# Altium schematic symbol library adafruit.SCHLIB: 884 symbols (part 14 of 15)
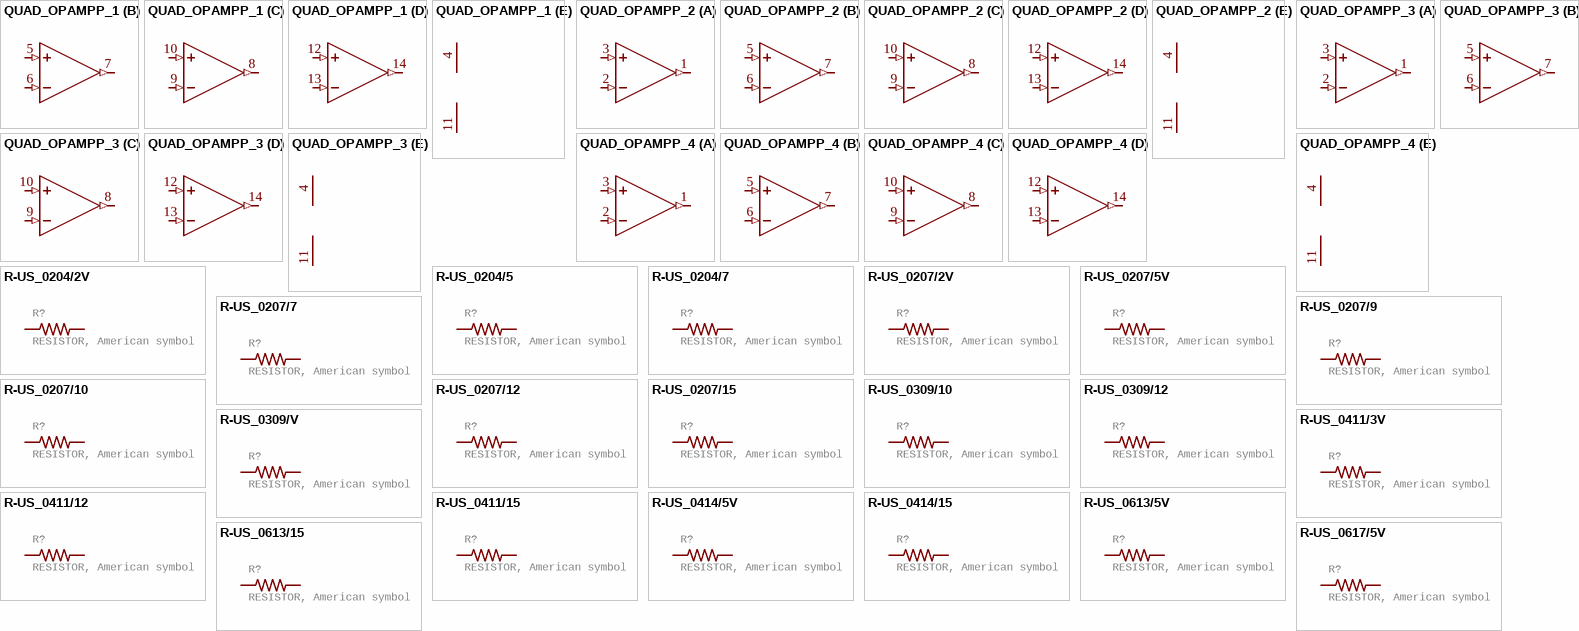
[diagram p201: symbols QUAD_OPAMPP_1 to R-US_0617/5V]

## R-US_0207/10
designator R?, comment RESISTOR, American symbol
GateName_1: G$1; SymbolName_1: R-US; DeviceName: 0207/10; DeviceSetName: R-US_; LibraryName: adafruit; Package: 0207/10
footprint 0207/10
pins: 1, 2

## R-US_0207/12
designator R?, comment RESISTOR, American symbol
GateName_1: G$1; SymbolName_1: R-US; DeviceName: 0207/12; DeviceSetName: R-US_; LibraryName: adafruit; Package: 0207/12
footprint 0207/12
pins: 1, 2

## R-US_0207/15
designator R?, comment RESISTOR, American symbol
GateName_1: G$1; SymbolName_1: R-US; DeviceName: 0207/15; DeviceSetName: R-US_; LibraryName: adafruit; Package: 0207/15
footprint 0207/15
pins: 1, 2

## R-US_0309/10
designator R?, comment RESISTOR, American symbol
GateName_1: G$1; SymbolName_1: R-US; DeviceName: 0309/10; DeviceSetName: R-US_; LibraryName: adafruit; Package: 0309/10
footprint 0309/10
pins: 1, 2

## R-US_0309/12
designator R?, comment RESISTOR, American symbol
GateName_1: G$1; SymbolName_1: R-US; DeviceName: 0309/12; DeviceSetName: R-US_; LibraryName: adafruit; Package: 0309/12
footprint 0309/12
pins: 1, 2

## R-US_0309/V
designator R?, comment RESISTOR, American symbol
GateName_1: G$1; SymbolName_1: R-US; DeviceName: 0309/V; DeviceSetName: R-US_; LibraryName: adafruit; Package: 0309V
footprint 0309V
pins: 1, 2

## R-US_0411/3V
designator R?, comment RESISTOR, American symbol
GateName_1: G$1; SymbolName_1: R-US; DeviceName: 0411/3V; DeviceSetName: R-US_; LibraryName: adafruit; Package: 0411V
footprint 0411V
pins: 1, 2

## R-US_0411/12
designator R?, comment RESISTOR, American symbol
GateName_1: G$1; SymbolName_1: R-US; DeviceName: 0411/12; DeviceSetName: R-US_; LibraryName: adafruit; Package: 0411/12
footprint 0411/12
pins: 1, 2

## R-US_0411/15
designator R?, comment RESISTOR, American symbol
GateName_1: G$1; SymbolName_1: R-US; DeviceName: 0411/15; DeviceSetName: R-US_; LibraryName: adafruit; Package: 0411/15
footprint 0411/15
pins: 1, 2

## R-US_0414/5V
designator R?, comment RESISTOR, American symbol
GateName_1: G$1; SymbolName_1: R-US; DeviceName: 0414/5V; DeviceSetName: R-US_; LibraryName: adafruit; Package: 0414V
footprint 0414V
pins: 1, 2

## R-US_0414/15
designator R?, comment RESISTOR, American symbol
GateName_1: G$1; SymbolName_1: R-US; DeviceName: 0414/15; DeviceSetName: R-US_; LibraryName: adafruit; Package: 0414/15
footprint 0414/15
pins: 1, 2

## R-US_0613/5V
designator R?, comment RESISTOR, American symbol
GateName_1: G$1; SymbolName_1: R-US; DeviceName: 0613/5V; DeviceSetName: R-US_; LibraryName: adafruit; Package: P0613V
footprint P0613V
pins: 1, 2

## R-US_0613/15
designator R?, comment RESISTOR, American symbol
GateName_1: G$1; SymbolName_1: R-US; DeviceName: 0613/15; DeviceSetName: R-US_; LibraryName: adafruit; Package: P0613/15
footprint P0613/15
pins: 1, 2

## R-US_0617/5V
designator R?, comment RESISTOR, American symbol
GateName_1: G$1; SymbolName_1: R-US; DeviceName: 0617/5V; DeviceSetName: R-US_; LibraryName: adafruit; Package: 0617V
footprint 0617V
pins: 1, 2

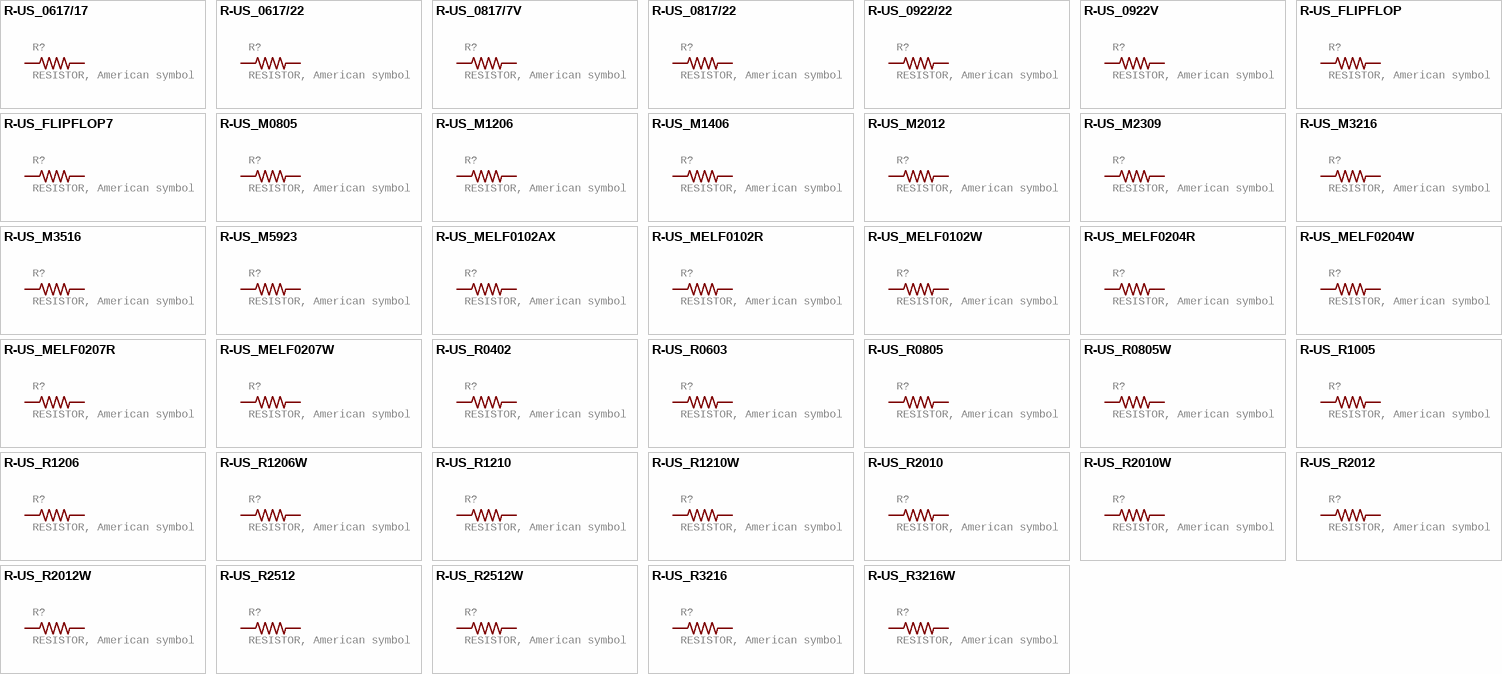
[diagram p183: symbols R-US_0617/17 to R-US_R3216W]

## R-US_0617/17
designator R?, comment RESISTOR, American symbol
GateName_1: G$1; SymbolName_1: R-US; DeviceName: 0617/17; DeviceSetName: R-US_; LibraryName: adafruit; Package: 0617/17
footprint 0617/17
pins: 1, 2

## R-US_0617/22
designator R?, comment RESISTOR, American symbol
GateName_1: G$1; SymbolName_1: R-US; DeviceName: 0617/22; DeviceSetName: R-US_; LibraryName: adafruit; Package: 0617/22
footprint 0617/22
pins: 1, 2

## R-US_0817/7V
designator R?, comment RESISTOR, American symbol
GateName_1: G$1; SymbolName_1: R-US; DeviceName: 0817/7V; DeviceSetName: R-US_; LibraryName: adafruit; Package: P0817V
footprint P0817V
pins: 1, 2

## R-US_0817/22
designator R?, comment RESISTOR, American symbol
GateName_1: G$1; SymbolName_1: R-US; DeviceName: 0817/22; DeviceSetName: R-US_; LibraryName: adafruit; Package: P0817/22
footprint P0817/22
pins: 1, 2

## R-US_0922/22
designator R?, comment RESISTOR, American symbol
GateName_1: G$1; SymbolName_1: R-US; DeviceName: 0922/22; DeviceSetName: R-US_; LibraryName: adafruit; Package: 0922/22
footprint 0922/22
pins: 1, 2

## R-US_0922V
designator R?, comment RESISTOR, American symbol
GateName_1: G$1; SymbolName_1: R-US; DeviceName: 0922V; DeviceSetName: R-US_; LibraryName: adafruit; Package: 0922V
footprint 0922V
pins: 1, 2

## R-US_FLIPFLOP
designator R?, comment RESISTOR, American symbol
GateName_1: G$1; SymbolName_1: R-US; DeviceName: FLIPFLOP; DeviceSetName: R-US_; LibraryName: adafruit; Package: 0805-THM
footprint 0805-THM
pins: 1, 2

## R-US_FLIPFLOP7
designator R?, comment RESISTOR, American symbol
GateName_1: G$1; SymbolName_1: R-US; DeviceName: FLIPFLOP7; DeviceSetName: R-US_; LibraryName: adafruit; Package: 0805-THM-7
footprint 0805-THM-7
pins: 1, 2

## R-US_M0805
designator R?, comment RESISTOR, American symbol
GateName_1: G$1; SymbolName_1: R-US; DeviceName: M0805; DeviceSetName: R-US_; LibraryName: adafruit; Package: M0805
footprint M0805
pins: 1, 2

## R-US_M1206
designator R?, comment RESISTOR, American symbol
GateName_1: G$1; SymbolName_1: R-US; DeviceName: M1206; DeviceSetName: R-US_; LibraryName: adafruit; Package: M1206
footprint M1206
pins: 1, 2

## R-US_M1406
designator R?, comment RESISTOR, American symbol
GateName_1: G$1; SymbolName_1: R-US; DeviceName: M1406; DeviceSetName: R-US_; LibraryName: adafruit; Package: M1406
footprint M1406
pins: 1, 2

## R-US_M2012
designator R?, comment RESISTOR, American symbol
GateName_1: G$1; SymbolName_1: R-US; DeviceName: M2012; DeviceSetName: R-US_; LibraryName: adafruit; Package: M2012
footprint M2012
pins: 1, 2

## R-US_M2309
designator R?, comment RESISTOR, American symbol
GateName_1: G$1; SymbolName_1: R-US; DeviceName: M2309; DeviceSetName: R-US_; LibraryName: adafruit; Package: M2309
footprint M2309
pins: 1, 2

## R-US_M3216
designator R?, comment RESISTOR, American symbol
GateName_1: G$1; SymbolName_1: R-US; DeviceName: M3216; DeviceSetName: R-US_; LibraryName: adafruit; Package: M3216
footprint M3216
pins: 1, 2

## R-US_M3516
designator R?, comment RESISTOR, American symbol
GateName_1: G$1; SymbolName_1: R-US; DeviceName: M3516; DeviceSetName: R-US_; LibraryName: adafruit; Package: M3516
footprint M3516
pins: 1, 2

## R-US_M5923
designator R?, comment RESISTOR, American symbol
GateName_1: G$1; SymbolName_1: R-US; DeviceName: M5923; DeviceSetName: R-US_; LibraryName: adafruit; Package: M5923
footprint M5923
pins: 1, 2

## R-US_MELF0102AX
designator R?, comment RESISTOR, American symbol
GateName_1: G$1; SymbolName_1: R-US; DeviceName: MELF0102AX; DeviceSetName: R-US_; LibraryName: adafruit; Package: MINI_MELF-0102AX
footprint MINI_MELF-0102AX
pins: 1, 2

## R-US_MELF0102R
designator R?, comment RESISTOR, American symbol
GateName_1: G$1; SymbolName_1: R-US; DeviceName: MELF0102R; DeviceSetName: R-US_; LibraryName: adafruit; Package: MINI_MELF-0102R
footprint MINI_MELF-0102R
pins: 1, 2

## R-US_MELF0102W
designator R?, comment RESISTOR, American symbol
GateName_1: G$1; SymbolName_1: R-US; DeviceName: MELF0102W; DeviceSetName: R-US_; LibraryName: adafruit; Package: MINI_MELF-0102W
footprint MINI_MELF-0102W
pins: 1, 2

## R-US_MELF0204R
designator R?, comment RESISTOR, American symbol
GateName_1: G$1; SymbolName_1: R-US; DeviceName: MELF0204R; DeviceSetName: R-US_; LibraryName: adafruit; Package: MINI_MELF-0204R
footprint MINI_MELF-0204R
pins: 1, 2

## R-US_MELF0204W
designator R?, comment RESISTOR, American symbol
GateName_1: G$1; SymbolName_1: R-US; DeviceName: MELF0204W; DeviceSetName: R-US_; LibraryName: adafruit; Package: MINI_MELF-0204W
footprint MINI_MELF-0204W
pins: 1, 2

## R-US_MELF0207R
designator R?, comment RESISTOR, American symbol
GateName_1: G$1; SymbolName_1: R-US; DeviceName: MELF0207R; DeviceSetName: R-US_; LibraryName: adafruit; Package: MINI_MELF-0207R
footprint MINI_MELF-0207R
pins: 1, 2

## R-US_MELF0207W
designator R?, comment RESISTOR, American symbol
GateName_1: G$1; SymbolName_1: R-US; DeviceName: MELF0207W; DeviceSetName: R-US_; LibraryName: adafruit; Package: MINI_MELF-0207W
footprint MINI_MELF-0207W
pins: 1, 2

## R-US_R0402
designator R?, comment RESISTOR, American symbol
GateName_1: G$1; SymbolName_1: R-US; DeviceName: R0402; DeviceSetName: R-US_; LibraryName: adafruit; Package: R0402
footprint R0402
pins: 1, 2

## R-US_R0603
designator R?, comment RESISTOR, American symbol
GateName_1: G$1; SymbolName_1: R-US; DeviceName: R0603; DeviceSetName: R-US_; LibraryName: adafruit; Package: R0603
footprint R0603
pins: 1, 2

## R-US_R0805
designator R?, comment RESISTOR, American symbol
GateName_1: G$1; SymbolName_1: R-US; DeviceName: R0805; DeviceSetName: R-US_; LibraryName: adafruit; Package: R0805
footprint R0805
pins: 1, 2

## R-US_R0805W
designator R?, comment RESISTOR, American symbol
GateName_1: G$1; SymbolName_1: R-US; DeviceName: R0805W; DeviceSetName: R-US_; LibraryName: adafruit; Package: R0805W
footprint R0805W
pins: 1, 2

## R-US_R1005
designator R?, comment RESISTOR, American symbol
GateName_1: G$1; SymbolName_1: R-US; DeviceName: R1005; DeviceSetName: R-US_; LibraryName: adafruit; Package: R1005
footprint R1005
pins: 1, 2

## R-US_R1206
designator R?, comment RESISTOR, American symbol
GateName_1: G$1; SymbolName_1: R-US; DeviceName: R1206; DeviceSetName: R-US_; LibraryName: adafruit; Package: R1206
footprint R1206
pins: 1, 2

## R-US_R1206W
designator R?, comment RESISTOR, American symbol
GateName_1: G$1; SymbolName_1: R-US; DeviceName: R1206W; DeviceSetName: R-US_; LibraryName: adafruit; Package: R1206W
footprint R1206W
pins: 1, 2

## R-US_R1210
designator R?, comment RESISTOR, American symbol
GateName_1: G$1; SymbolName_1: R-US; DeviceName: R1210; DeviceSetName: R-US_; LibraryName: adafruit; Package: R1210
footprint R1210
pins: 1, 2

## R-US_R1210W
designator R?, comment RESISTOR, American symbol
GateName_1: G$1; SymbolName_1: R-US; DeviceName: R1210W; DeviceSetName: R-US_; LibraryName: adafruit; Package: R1210W
footprint R1210W
pins: 1, 2

## R-US_R2010
designator R?, comment RESISTOR, American symbol
GateName_1: G$1; SymbolName_1: R-US; DeviceName: R2010; DeviceSetName: R-US_; LibraryName: adafruit; Package: R2010
footprint R2010
pins: 1, 2

## R-US_R2010W
designator R?, comment RESISTOR, American symbol
GateName_1: G$1; SymbolName_1: R-US; DeviceName: R2010W; DeviceSetName: R-US_; LibraryName: adafruit; Package: R2010W
footprint R2010W
pins: 1, 2

## R-US_R2012
designator R?, comment RESISTOR, American symbol
GateName_1: G$1; SymbolName_1: R-US; DeviceName: R2012; DeviceSetName: R-US_; LibraryName: adafruit; Package: R2012
footprint R2012
pins: 1, 2

## R-US_R2012W
designator R?, comment RESISTOR, American symbol
GateName_1: G$1; SymbolName_1: R-US; DeviceName: R2012W; DeviceSetName: R-US_; LibraryName: adafruit; Package: R2012W
footprint R2012W
pins: 1, 2

## R-US_R2512
designator R?, comment RESISTOR, American symbol
GateName_1: G$1; SymbolName_1: R-US; DeviceName: R2512; DeviceSetName: R-US_; LibraryName: adafruit; Package: R2512
footprint R2512
pins: 1, 2

## R-US_R2512W
designator R?, comment RESISTOR, American symbol
GateName_1: G$1; SymbolName_1: R-US; DeviceName: R2512W; DeviceSetName: R-US_; LibraryName: adafruit; Package: R2512W
footprint R2512W
pins: 1, 2

## R-US_R3216
designator R?, comment RESISTOR, American symbol
GateName_1: G$1; SymbolName_1: R-US; DeviceName: R3216; DeviceSetName: R-US_; LibraryName: adafruit; Package: R3216
footprint R3216
pins: 1, 2

## R-US_R3216W
designator R?, comment RESISTOR, American symbol
GateName_1: G$1; SymbolName_1: R-US; DeviceName: R3216W; DeviceSetName: R-US_; LibraryName: adafruit; Package: R3216W
footprint R3216W
pins: 1, 2

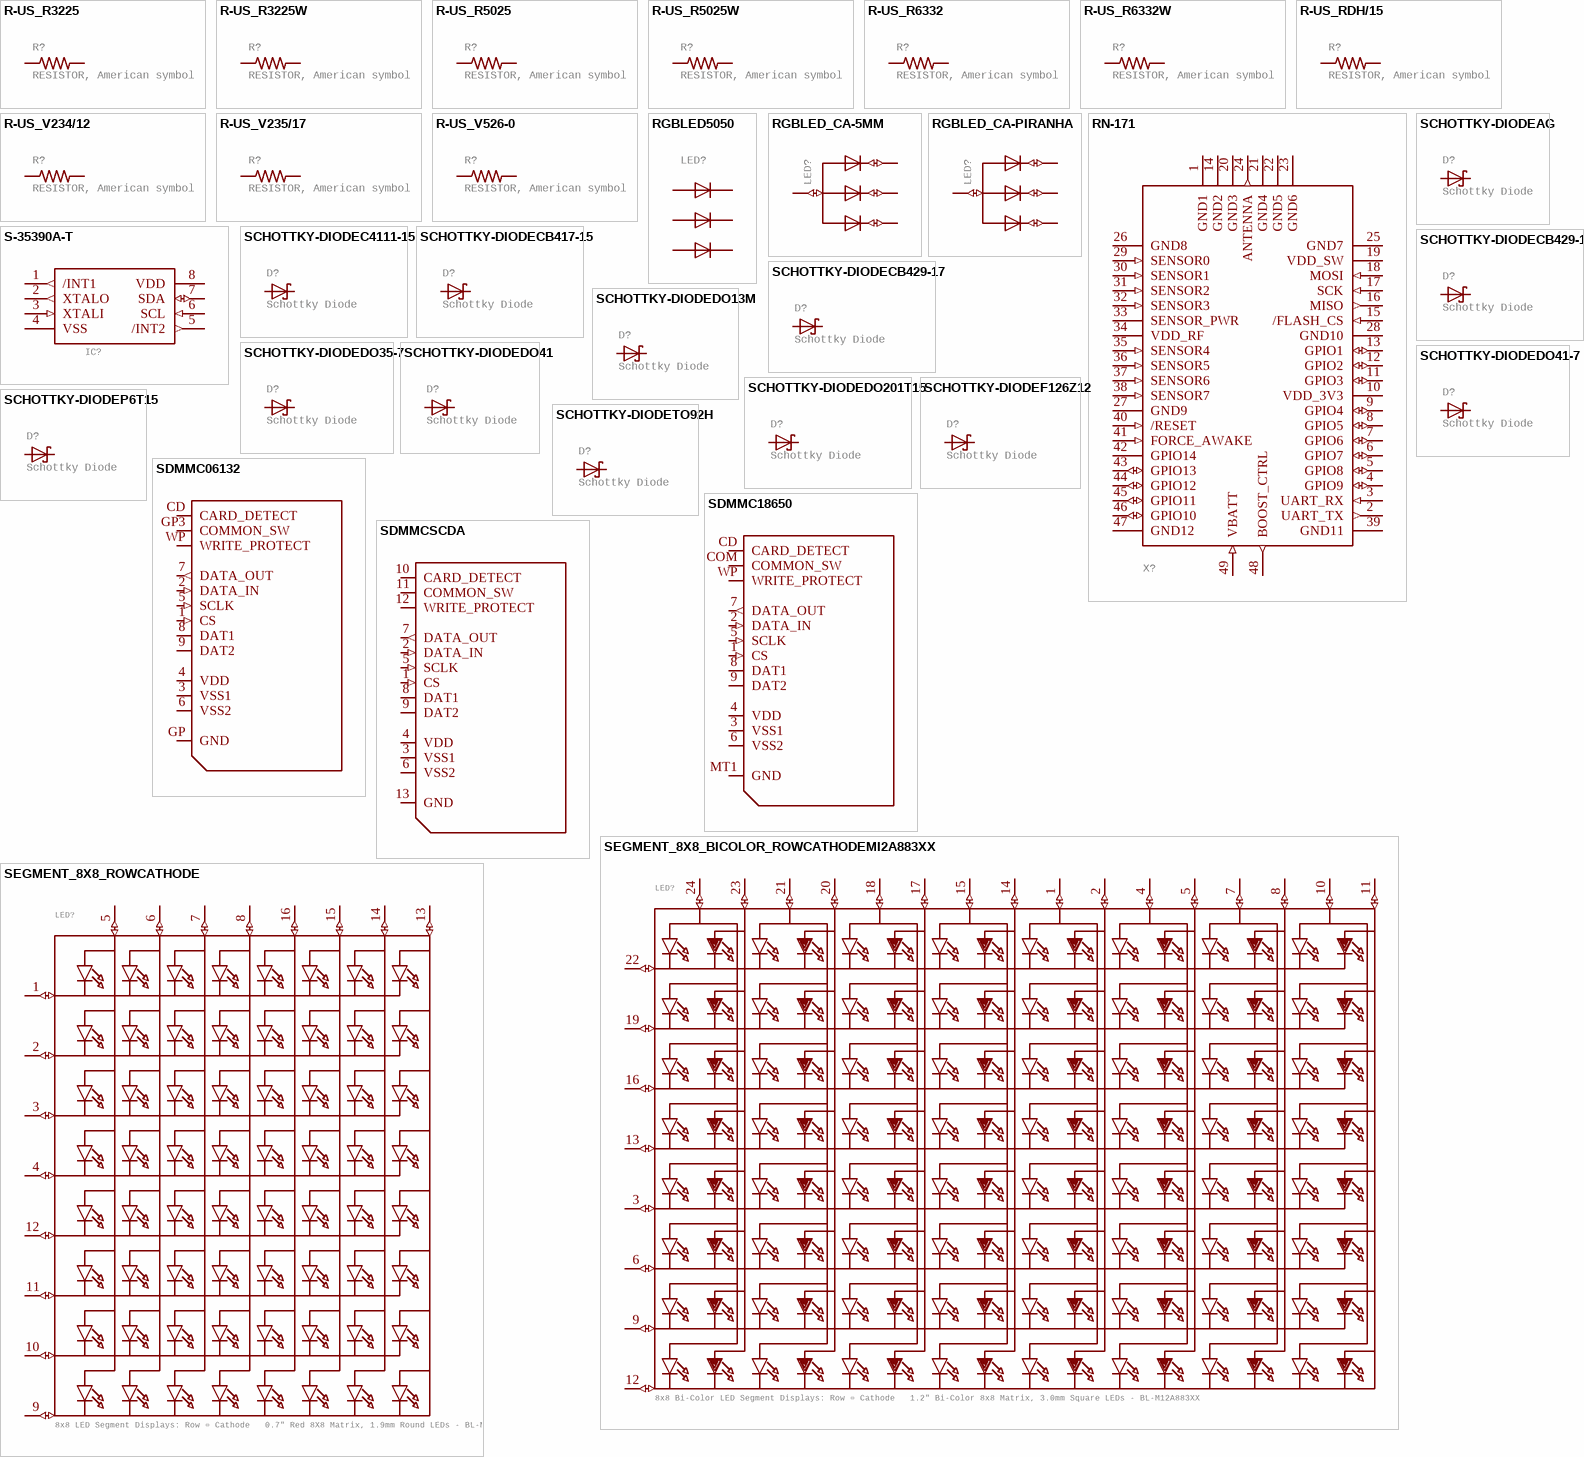
[diagram p184: symbols R-US_R3225 to SEGMENT_8X8_ROWCATHODE]

## R-US_R3225
designator R?, comment RESISTOR, American symbol
GateName_1: G$1; SymbolName_1: R-US; DeviceName: R3225; DeviceSetName: R-US_; LibraryName: adafruit; Package: R3225
footprint R3225
pins: 1, 2

## R-US_R3225W
designator R?, comment RESISTOR, American symbol
GateName_1: G$1; SymbolName_1: R-US; DeviceName: R3225W; DeviceSetName: R-US_; LibraryName: adafruit; Package: R3225W
footprint R3225W
pins: 1, 2

## R-US_R5025
designator R?, comment RESISTOR, American symbol
GateName_1: G$1; SymbolName_1: R-US; DeviceName: R5025; DeviceSetName: R-US_; LibraryName: adafruit; Package: R5025
footprint R5025
pins: 1, 2

## R-US_R5025W
designator R?, comment RESISTOR, American symbol
GateName_1: G$1; SymbolName_1: R-US; DeviceName: R5025W; DeviceSetName: R-US_; LibraryName: adafruit; Package: R5025W
footprint R5025W
pins: 1, 2

## R-US_R6332
designator R?, comment RESISTOR, American symbol
GateName_1: G$1; SymbolName_1: R-US; DeviceName: R6332; DeviceSetName: R-US_; LibraryName: adafruit; Package: R6332
footprint R6332
pins: 1, 2

## R-US_R6332W
designator R?, comment RESISTOR, American symbol
GateName_1: G$1; SymbolName_1: R-US; DeviceName: R6332W; DeviceSetName: R-US_; LibraryName: adafruit; Package: R6332W
footprint R6332W
pins: 1, 2

## R-US_RDH/15
designator R?, comment RESISTOR, American symbol
GateName_1: G$1; SymbolName_1: R-US; DeviceName: RDH/15; DeviceSetName: R-US_; LibraryName: adafruit; Package: RDH/15
footprint RDH/15
pins: 1, 2

## R-US_V234/12
designator R?, comment RESISTOR, American symbol
GateName_1: G$1; SymbolName_1: R-US; DeviceName: V234/12; DeviceSetName: R-US_; LibraryName: adafruit; Package: V234/12
footprint V234/12
pins: 1, 2

## R-US_V235/17
designator R?, comment RESISTOR, American symbol
GateName_1: G$1; SymbolName_1: R-US; DeviceName: V235/17; DeviceSetName: R-US_; LibraryName: adafruit; Package: V235/17
footprint V235/17
pins: 1, 2

## R-US_V526-0
designator R?, comment RESISTOR, American symbol
GateName_1: G$1; SymbolName_1: R-US; DeviceName: V526-0; DeviceSetName: R-US_; LibraryName: adafruit; Package: V526-0
footprint V526-0
pins: 1, 2

## RGBLED5050
designator LED?, comment For 5050 RGB LEDs, the order of the LEDs may vary from one manufacturer to another!  (value not drawn)
GateName_1: G$1; SymbolName_1: RGBLED; DeviceName: 5050; LibraryName: adafruit; DeviceSetName: RGBLED; Package: RGBLED5050
footprint RGBLED5050
pins: 1 GREEN_A (io), 2 RED_A (io), 3 BLUE_A (io), 4 BLUE_C (io), 5 RED_C (io), 6 GREEN_C (io)

## RGBLED_CA-5MM
designator LED?, comment RGB LED, common-anode   5MM Staggered pins   5mm Piranha package    http://www.ladyada.net/library/pcb/eaglelibrary.html  (value not drawn)
GateName_1: G$1; SymbolName_1: RGBLED_CA; DeviceName: -5MM; LibraryName: adafruit; DeviceSetName: RGBLED_CA; Package: LED5MMRGB
footprint LED5MMRGB
pins: 1 RED (io), 2 VCC (io), 3 GREEN (io), 4 BLUE (io)

## RGBLED_CA-PIRANHA
designator LED?, comment RGB LED, common-anode   5MM Staggered pins   5mm Piranha package    http://www.ladyada.net/library/pcb/eaglelibrary.html  (value not drawn)
GateName_1: G$1; SymbolName_1: RGBLED_CA; DeviceName: -PIRANHA; LibraryName: adafruit; DeviceSetName: RGBLED_CA; Package: PIRANHA5MM
footprint PIRANHA5MM
pins: 1 BLUE (io), 2 RED (io), 3 GREEN (io), 4 VCC (io)

## RN-171
designator X?
GateName_1: G$1; SymbolName_1: RN-171; LibraryName: adafruit; DeviceSetName: RN-171; Package: RN-171
footprint RN-171
pins: 1 GND1 (power), 2 UART_TX (out), 3 UART_RX (in), 4 GPIO9 (io), 5 GPIO8 (io), 6 GPIO7 (io), 7 GPIO6 (io), 8 GPIO5 (io), 9 GPIO4 (io), 10 VDD_3V3 (power), 11 GPIO3 (io), 12 GPIO2 (io), 13 GPIO1 (io), 14 GND2 (power), 15 /FLASH_CS (in), 16 MISO (out), 17 SCK (in), 18 MOSI (in), 19 VDD_SW, 20 GND3 (power), 21 GND4 (power), 22 GND5 (power), 23 GND6 (power), 24 ANTENNA (out), 25 GND7 (power), 26 GND8 (power), 27 GND9 (power), 28 GND10 (power), 29 SENSOR0 (in), 30 SENSOR1 (in), 31 SENSOR2 (in), 32 SENSOR3 (in), 33 SENSOR_PWR (power), 34 VDD_RF (power), 35 SENSOR4 (in), 36 SENSOR5 (in), 37 SENSOR6 (in), 38 SENSOR7 (in), 39 GND11 (power), 40 /RESET (in), 41 FORCE_AWAKE (in), 42 GPIO14, 43 GPIO13 (io), 44 GPIO12 (io), 45 GPIO11 (io), 46 GPIO10 (io), 47 GND12 (power), 48 BOOST_CTRL (out), 49 VBATT (in)

## S-35390A-T
designator IC?, comment S-35390A  2-WIRE REAL-TIME CLOCK   The S-35390A is a CMOS 2-wire real-time clock IC which operates with the very low current consumption and in the wide range of operation voltage. The operation voltage is 1.3 V to 5.5 V so that this IC can be used for various power supplies from main supply to backup battery. Due to the 0.25 ?A current consumption and wide range of power supply voltage at time keeping, this IC makes the battery life longer. In the system which operates with a backup battery, the included free registers can be used as the function for user?s backup memory  (value not drawn)
GateName_1: G$1; DeviceName: -T; SymbolName_1: S-35390A; LibraryName: adafruit; DeviceSetName: S-35390A; Package: TSSOP-8
footprint TSSOP-8
pins: 1 /INT1 (out), 2 XTALO (out), 3 XTALI (in), 4 VSS (power), 5 /INT2 (out), 6 SCL (in), 7 SDA (io), 8 VDD (power)

## SCHOTTKY-DIODEAG
designator D?, comment Schottky Diode
GateName_1: G$1; DeviceName: AG; DeviceSetName: SCHOTTKY-DIODE; SymbolName_1: SCHOTTKY; LibraryName: adafruit; Package: AG
footprint AG
pins: A, C

## SCHOTTKY-DIODEC4111-15
designator D?, comment Schottky Diode
GateName_1: G$1; DeviceName: C4111-15; DeviceSetName: SCHOTTKY-DIODE; SymbolName_1: SCHOTTKY; LibraryName: adafruit; Package: C4111-15
footprint C4111-15
pins: A, C

## SCHOTTKY-DIODECB417-15
designator D?, comment Schottky Diode
GateName_1: G$1; DeviceName: CB417-15; DeviceSetName: SCHOTTKY-DIODE; SymbolName_1: SCHOTTKY; LibraryName: adafruit; Package: CB417-15
footprint CB417-15
pins: A, C

## SCHOTTKY-DIODECB429-15
designator D?, comment Schottky Diode
GateName_1: G$1; DeviceName: CB429-15; DeviceSetName: SCHOTTKY-DIODE; SymbolName_1: SCHOTTKY; LibraryName: adafruit; Package: CB429-15
footprint CB429-15
pins: A, C

## SCHOTTKY-DIODECB429-17
designator D?, comment Schottky Diode
GateName_1: G$1; DeviceName: CB429-17; DeviceSetName: SCHOTTKY-DIODE; SymbolName_1: SCHOTTKY; LibraryName: adafruit; Package: CB429-17
footprint CB429-17
pins: A, C

## SCHOTTKY-DIODEDO13M
designator D?, comment Schottky Diode
GateName_1: G$1; DeviceName: DO13M; DeviceSetName: SCHOTTKY-DIODE; SymbolName_1: SCHOTTKY; LibraryName: adafruit; Package: DO13M
footprint DO13M
pins: A, C

## SCHOTTKY-DIODEDO35-7
designator D?, comment Schottky Diode
GateName_1: G$1; DeviceName: DO35-7; DeviceSetName: SCHOTTKY-DIODE; SymbolName_1: SCHOTTKY; LibraryName: adafruit; Package: DO35-7
footprint DO35-7
pins: A, C

## SCHOTTKY-DIODEDO41
designator D?, comment Schottky Diode
GateName_1: G$1; DeviceName: DO41; DeviceSetName: SCHOTTKY-DIODE; SymbolName_1: SCHOTTKY; LibraryName: adafruit; Package: DO41-10
footprint DO41-10
pins: A, C

## SCHOTTKY-DIODEDO41-7
designator D?, comment Schottky Diode
GateName_1: G$1; DeviceName: DO41-7; DeviceSetName: SCHOTTKY-DIODE; SymbolName_1: SCHOTTKY; LibraryName: adafruit; Package: DO41-7
footprint DO41-7
pins: A, C

## SCHOTTKY-DIODEDO201T15
designator D?, comment Schottky Diode
GateName_1: G$1; DeviceName: DO201T15; DeviceSetName: SCHOTTKY-DIODE; SymbolName_1: SCHOTTKY; LibraryName: adafruit; Package: DO201T15
footprint DO201T15
pins: A, C

## SCHOTTKY-DIODEF126Z12
designator D?, comment Schottky Diode
GateName_1: G$1; DeviceName: F126Z12; DeviceSetName: SCHOTTKY-DIODE; SymbolName_1: SCHOTTKY; LibraryName: adafruit; Package: F126Z12
footprint F126Z12
pins: A, C

## SCHOTTKY-DIODEP6T15
designator D?, comment Schottky Diode
GateName_1: G$1; DeviceName: P6T15; DeviceSetName: SCHOTTKY-DIODE; SymbolName_1: SCHOTTKY; LibraryName: adafruit; Package: P6T15
footprint P6T15
pins: A, C

## SCHOTTKY-DIODETO92H
designator D?, comment Schottky Diode
GateName_1: G$1; DeviceName: TO92H; DeviceSetName: SCHOTTKY-DIODE; SymbolName_1: SCHOTTKY; LibraryName: adafruit; Package: TO92H
footprint TO92H
pins: 1 A, 2 C

## SDMMC06132
designator ?, comment SD MMC Card holder   4UCON part #06132 - easy to solder  (value not drawn)
GateName_1: G$1; SymbolName_1: SD-MMC; DeviceName: 06132; DeviceSetName: SDMMC; LibraryName: adafruit; Package: 06132
footprint 06132
pins: 1 CS (in), 2 DATA_IN (in), 3 VSS1 (power), 4 VDD (power), 5 SCLK (in), 6 VSS2 (power), 7 DATA_OUT (out), 8 DAT1 (io), 9 DAT2 (io), CD CARD_DETECT, GP GND (power), GP3 COMMON_SW, WP WRITE_PROTECT

## SDMMC18650
designator ?, comment SD MMC Card holder   4UCON part #06132 - easy to solder  (value not drawn)
GateName_1: G$1; SymbolName_1: SD-MMC; DeviceName: 18650; DeviceSetName: SDMMC; LibraryName: adafruit; Package: SDCARD
footprint SDCARD
pins: 1 CS (in), 2 DATA_IN (in), 3 VSS1 (power), 4 VDD (power), 5 SCLK (in), 6 VSS2 (power), 7 DATA_OUT (out), 8 DAT1 (io), 9 DAT2 (io), CD CARD_DETECT, COM COMMON_SW, MT1 GND (power), WP WRITE_PROTECT

## SDMMCSCDA
designator ?, comment SD MMC Card holder   4UCON part #06132 - easy to solder  (value not drawn)
GateName_1: G$1; SymbolName_1: SD-MMC; DeviceName: SCDA; DeviceSetName: SDMMC; LibraryName: adafruit; Package: SCDA
footprint SCDA
pins: 1 CS (in), 2 DATA_IN (in), 3 VSS1 (power), 4 VDD (power), 5 SCLK (in), 6 VSS2 (power), 7 DATA_OUT (out), 8 DAT1 (io), 9 DAT2 (io), 10 CARD_DETECT, 11 COMMON_SW, 12 WRITE_PROTECT, 13 GND (power)

## SEGMENT_8X8_BICOLOR_ROWCATHODEMI2A883XX
designator LED?, comment 8x8 Bi-Color LED Segment Displays: Row = Cathode   1.2" Bi-Color 8x8 Matrix, 3.0mm Square LEDs - BL-M12A883XX
GateName_1: G$1; SymbolName_1: SEGMENT_8X8_BICOLOR_CATHODEROW; DeviceName: MI2A883XX; DeviceSetName: SEGMENT_8X8_BICOLOR_ROWCATHODE; LibraryName: adafruit; Package: SEGMENT_BICOL_BL-M12A883XX
footprint SEGMENT_BICOL_BL-M12A883XX
pins: 1 A9 (io), 2 A10 (io), 3 K5 (io), 4 A11 (io), 5 A12 (io), 6 K6 (io), 7 A13 (io), 8 A14 (io), 9 K7 (io), 10 A15 (io), 11 A16 (io), 12 K8 (io), 13 K4 (io), 14 A8 (io), 15 A7 (io), 16 K3 (io), 17 A6 (io), 18 A5 (io), 19 K2 (io), 20 A4 (io), 21 A3 (io), 22 K1 (io), 23 A2 (io), 24 A1 (io)

## SEGMENT_8X8_ROWCATHODE
designator LED?, comment 8x8 LED Segment Displays: Row = Cathode   0.7" Red 8X8 Matrix, 1.9mm Round LEDs - BL-M07C881UR   1.2" Red 8x8 Matrix, 3.0mm Round LEDs - BL-M12A881UR   1.2" Red 8x8 Matrix, 3.0mm Square LEDs - BL-M12A883
GateName_1: G$1; SymbolName_1: SEGMENT_8X8_CATHODEROW; DeviceSetName: SEGMENT_8X8_ROWCATHODE; LibraryName: adafruit; Package: SEGMENT_BL-M07C881UR
footprint SEGMENT_BL-M07C881UR
pins: 1 K1 (io), 2 K2 (io), 3 K3 (io), 4 K4 (io), 5 A1 (io), 6 A2 (io), 7 A3 (io), 8 A4 (io), 9 K8 (io), 10 K7 (io), 11 K6 (io), 12 K5 (io), 13 A8 (io), 14 A7 (io), 15 A6 (io), 16 A5 (io)

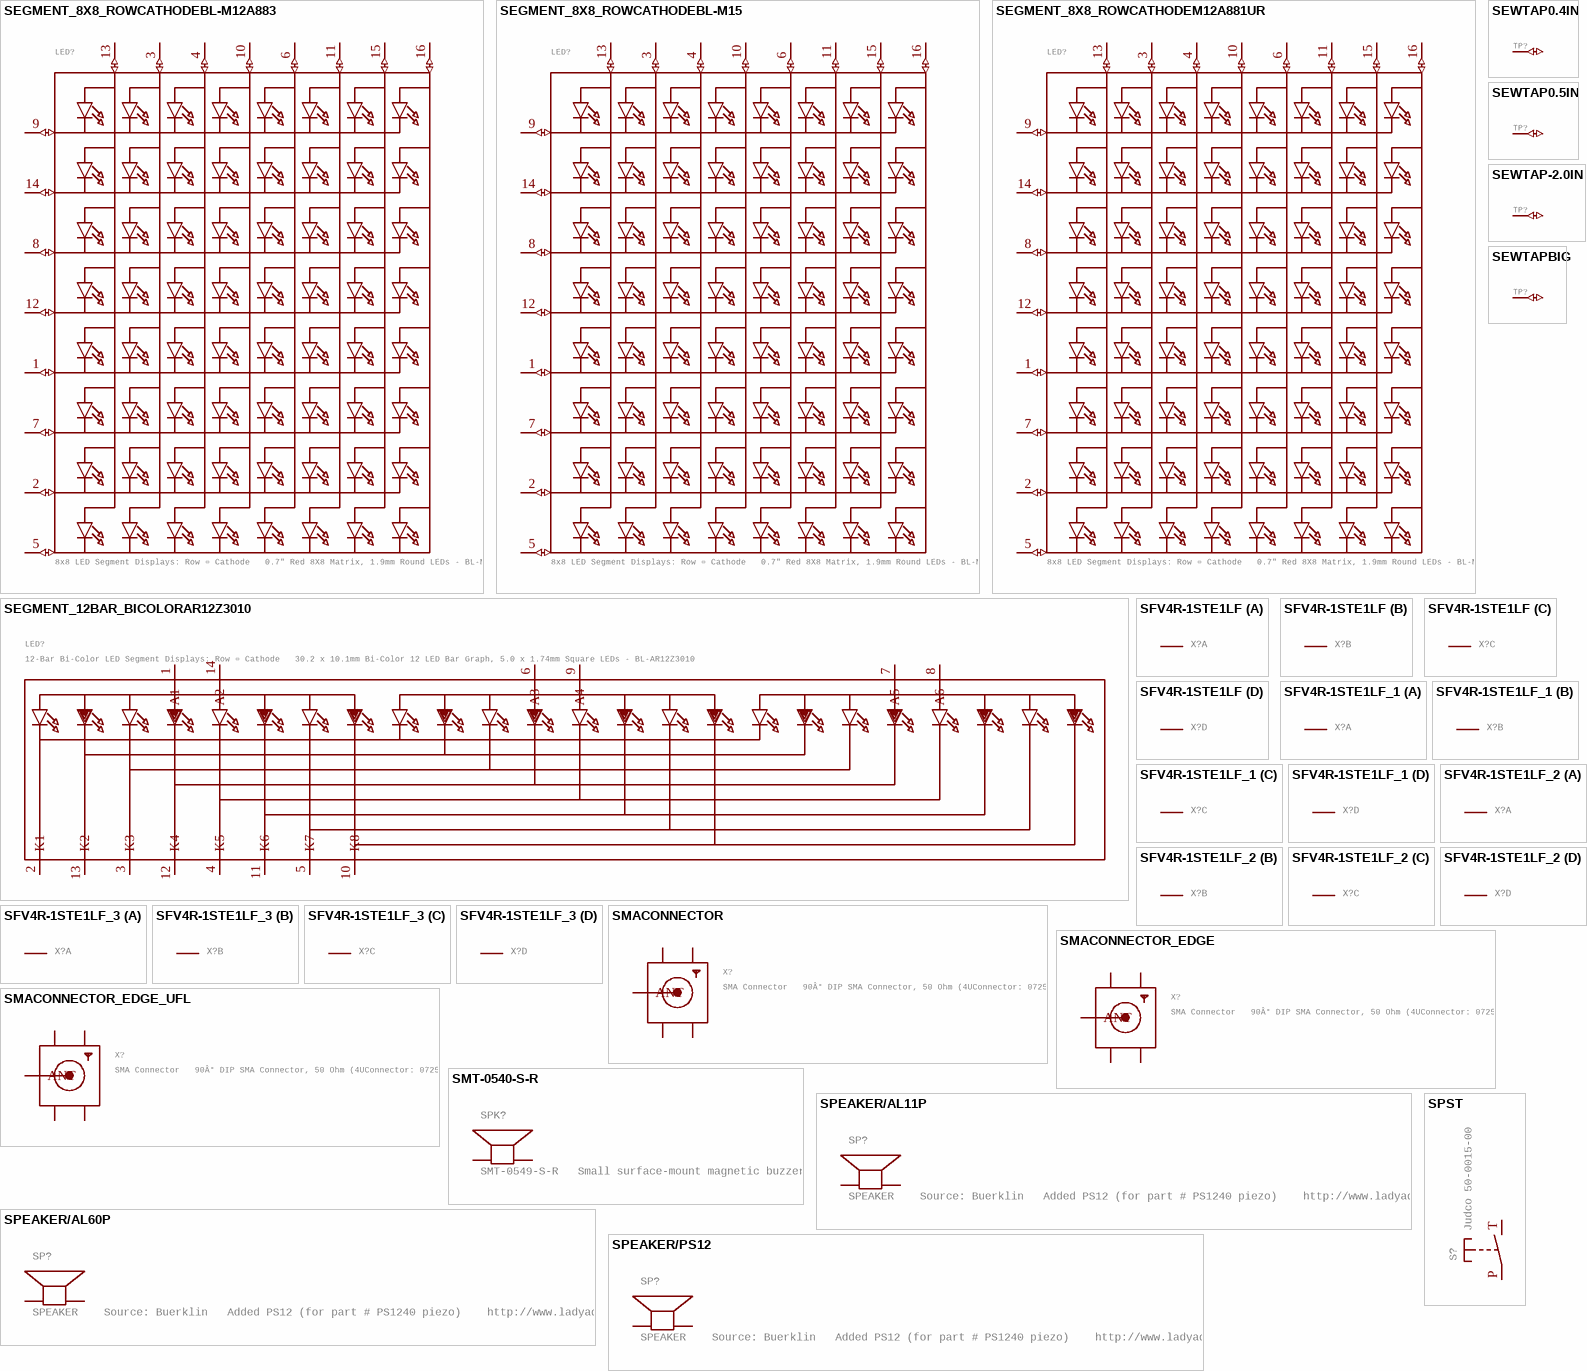
[diagram p185: symbols SEGMENT_8X8_ROWCATHODEBL-M12A883 to SPST]

## SEGMENT_8X8_ROWCATHODEBL-M12A883
designator LED?, comment 8x8 LED Segment Displays: Row = Cathode   0.7" Red 8X8 Matrix, 1.9mm Round LEDs - BL-M07C881UR   1.2" Red 8x8 Matrix, 3.0mm Round LEDs - BL-M12A881UR   1.2" Red 8x8 Matrix, 3.0mm Square LEDs - BL-M12A883
GateName_1: G$1; SymbolName_1: SEGMENT_8X8_CATHODEROW; DeviceSetName: SEGMENT_8X8_ROWCATHODE; DeviceName: BL-M12A883; LibraryName: adafruit; Package: SEGMENT_BL-M12A883
footprint SEGMENT_BL-M12A883
pins: 1 K5 (io), 2 K7 (io), 3 A2 (io), 4 A3 (io), 5 K8 (io), 6 A5 (io), 7 K6 (io), 8 K3 (io), 9 K1 (io), 10 A4 (io), 11 A6 (io), 12 K4 (io), 13 A1 (io), 14 K2 (io), 15 A7 (io), 16 A8 (io)

## SEGMENT_8X8_ROWCATHODEBL-M15
designator LED?, comment 8x8 LED Segment Displays: Row = Cathode   0.7" Red 8X8 Matrix, 1.9mm Round LEDs - BL-M07C881UR   1.2" Red 8x8 Matrix, 3.0mm Round LEDs - BL-M12A881UR   1.2" Red 8x8 Matrix, 3.0mm Square LEDs - BL-M12A883
GateName_1: G$1; SymbolName_1: SEGMENT_8X8_CATHODEROW; DeviceName: BL-M15; DeviceSetName: SEGMENT_8X8_ROWCATHODE; LibraryName: adafruit; Package: SEGMENT_BL-M15A881
footprint SEGMENT_BL-M15A881
pins: 1 K5 (io), 2 K7 (io), 3 A2 (io), 4 A3 (io), 5 K8 (io), 6 A5 (io), 7 K6 (io), 8 K3 (io), 9 K1 (io), 10 A4 (io), 11 A6 (io), 12 K4 (io), 13 A1 (io), 14 K2 (io), 15 A7 (io), 16 A8 (io)

## SEGMENT_8X8_ROWCATHODEM12A881UR
designator LED?, comment 8x8 LED Segment Displays: Row = Cathode   0.7" Red 8X8 Matrix, 1.9mm Round LEDs - BL-M07C881UR   1.2" Red 8x8 Matrix, 3.0mm Round LEDs - BL-M12A881UR   1.2" Red 8x8 Matrix, 3.0mm Square LEDs - BL-M12A883
GateName_1: G$1; SymbolName_1: SEGMENT_8X8_CATHODEROW; DeviceSetName: SEGMENT_8X8_ROWCATHODE; DeviceName: M12A881UR; LibraryName: adafruit; Package: SEGMENT_BL-M12A881UR
footprint SEGMENT_BL-M12A881UR
pins: 1 K5 (io), 2 K7 (io), 3 A2 (io), 4 A3 (io), 5 K8 (io), 6 A5 (io), 7 K6 (io), 8 K3 (io), 9 K1 (io), 10 A4 (io), 11 A6 (io), 12 K4 (io), 13 A1 (io), 14 K2 (io), 15 A7 (io), 16 A8 (io)

## SEGMENT_12BAR_BICOLORAR12Z3010
designator LED?, comment 12-Bar Bi-Color LED Segment Displays: Row = Cathode   30.2 x 10.1mm Bi-Color 12 LED Bar Graph, 5.0 x 1.74mm Square LEDs - BL-AR12Z3010
GateName_1: G$1; SymbolName_1: SEGMENT_12BAR_BICOLOR_CATHODEROW; DeviceSetName: SEGMENT_12BAR_BICOLOR; DeviceName: AR12Z3010; LibraryName: adafruit; Package: SEGMENT_BICOL_BL-AR12Z3010
footprint SEGMENT_BICOL_BL-AR12Z3010
pins: 1 A1 (io), 2 K1 (io), 3 K3 (io), 4 K5 (io), 5 K7 (io), 6 A3 (io), 7 A5 (io), 8 A6 (io), 9 A4 (io), 10 K8 (io), 11 K6 (io), 12 K4 (io), 13 K2 (io), 14 A2 (io)

## SEWTAP0.4IN
designator TP?
GateName_1: G$1; SymbolName_1: SEWTAP; DeviceName: 0.4IN; LibraryName: adafruit; DeviceSetName: SEWTAP; Package: SEWINGTAP_0.4
footprint SEWINGTAP_0.4
pins: TAP SEW (io)

## SEWTAP0.5IN
designator TP?
GateName_1: G$1; SymbolName_1: SEWTAP; DeviceName: 0.5IN; LibraryName: adafruit; DeviceSetName: SEWTAP; Package: SEWINGTAP_0.5
footprint SEWINGTAP_0.5
pins: TAP SEW (io)

## SEWTAP-2.0IN
designator TP?
GateName_1: G$1; SymbolName_1: SEWTAP; DeviceName: -2.0IN; LibraryName: adafruit; DeviceSetName: SEWTAP; Package: SEWINGTAP_2.0
footprint SEWINGTAP_2.0
pins: P$1 SEW (io)

## SEWTAPBIG
designator TP?
GateName_1: G$1; SymbolName_1: SEWTAP; DeviceName: BIG; LibraryName: adafruit; DeviceSetName: SEWTAP; Package: BIGTAP
footprint BIGTAP
pins: P$1 SEW (io)

## SFV4R-1STE1LF
designator X?, comment FPC Connector ZIF for SMT 0.5mm   SFV4R-1STE1LF Useful as the LED backlight connector for a PSP display  (value not drawn)
GateName_1: -1; SymbolName_1: MV; GateName_2: -2; SymbolName_2: M; GateName_3: -3; GateName_4: -4; SymbolName_3: M; SymbolName_4: M; LibraryName: adafruit; DeviceSetName: SFV4R-1STE1LF; Package: SFV4R-1STE1LF
footprint SFV4R-1STE1LF
part A pins: 1 S
part B pins: 2 S
part C pins: 3 S
part D pins: 4 S

## SFV4R-1STE1LF_1
designator X?, comment FPC Connector ZIF for SMT 0.5mm   SFV4R-1STE1LF Useful as the LED backlight connector for a PSP display  (value not drawn)
GateName_1: -1; SymbolName_1: MV; GateName_2: -2; SymbolName_2: M; GateName_3: -3; GateName_4: -4; SymbolName_3: M; SymbolName_4: M; LibraryName: adafruit; DeviceSetName: SFV4R-1STE1LF; Package: SFV4R-1STE1LF
footprint SFV4R-1STE1LF
part A pins: 1 S
part B pins: 2 S
part C pins: 3 S
part D pins: 4 S

## SFV4R-1STE1LF_2
designator X?, comment FPC Connector ZIF for SMT 0.5mm   SFV4R-1STE1LF Useful as the LED backlight connector for a PSP display  (value not drawn)
GateName_1: -1; SymbolName_1: MV; GateName_2: -2; SymbolName_2: M; GateName_3: -3; GateName_4: -4; SymbolName_3: M; SymbolName_4: M; LibraryName: adafruit; DeviceSetName: SFV4R-1STE1LF; Package: SFV4R-1STE1LF
footprint SFV4R-1STE1LF
part A pins: 1 S
part B pins: 2 S
part C pins: 3 S
part D pins: 4 S

## SFV4R-1STE1LF_3
designator X?, comment FPC Connector ZIF for SMT 0.5mm   SFV4R-1STE1LF Useful as the LED backlight connector for a PSP display  (value not drawn)
GateName_1: -1; SymbolName_1: MV; GateName_2: -2; SymbolName_2: M; GateName_3: -3; GateName_4: -4; SymbolName_3: M; SymbolName_4: M; LibraryName: adafruit; DeviceSetName: SFV4R-1STE1LF; Package: SFV4R-1STE1LF
footprint SFV4R-1STE1LF
part A pins: 1 S
part B pins: 2 S
part C pins: 3 S
part D pins: 4 S

## SMACONNECTOR
designator X?, comment SMA Connector   90Â° DIP SMA Connector, 50 Ohm (4UConnector: 07259)
GateName_1: G$1; SymbolName_1: SMACONNECTOR; LibraryName: adafruit; DeviceSetName: SMACONNECTOR; Package: SMA90_DIP
footprint SMA90_DIP
pins: ANTENNA ANT (io), GND1 (power), GND2 (power), GND3 (power), GND4 (power)

## SMACONNECTOR_EDGE
designator X?, comment SMA Connector   90Â° DIP SMA Connector, 50 Ohm (4UConnector: 07259)
GateName_1: G$1; DeviceName: _EDGE; SymbolName_1: SMACONNECTOR; LibraryName: adafruit; DeviceSetName: SMACONNECTOR; Package: SMA_EDGELAUNCH
footprint SMA_EDGELAUNCH
pins: GND@1 GND4 (power), GND@2 GND3 (power), GND@3 GND2 (power), GND@4 GND1 (power), P ANT (io)

## SMACONNECTOR_EDGE_UFL
designator X?, comment SMA Connector   90Â° DIP SMA Connector, 50 Ohm (4UConnector: 07259)
GateName_1: G$1; DeviceName: _EDGE_UFL; SymbolName_1: SMACONNECTOR; LibraryName: adafruit; DeviceSetName: SMACONNECTOR; Package: SMA_EDGELAUNCH_UFL
footprint SMA_EDGELAUNCH_UFL
pins: GND@1 GND1 (power), GND@2 GND2 (power), GND@3 GND3 (power), GND@4 GND4 (power), P ANT (io)

## SMT-0540-S-R
designator SPK?, comment SMT-0549-S-R   Small surface-mount magnetic buzzer
GateName_1: G$1; SymbolName_1: SP; DeviceSetName: SMT-0540-S-R; LibraryName: adafruit; Package: SMT-0540-S-R
footprint SMT-0540-S-R
pins: + -, - +

## SPEAKER/AL11P
designator SP?, comment SPEAKER    Source: Buerklin   Added PS12 (for part # PS1240 piezo)    http://www.ladyada.net/library/pcb/eaglelibrary.html
GateName_1: S1; SymbolName_1: SP; DeviceName: /AL11P; LibraryName: adafruit; DeviceSetName: SPEAKER; Package: AL11P
footprint AL11P
pins: +, -

## SPEAKER/AL60P
designator SP?, comment SPEAKER    Source: Buerklin   Added PS12 (for part # PS1240 piezo)    http://www.ladyada.net/library/pcb/eaglelibrary.html
GateName_1: S1; SymbolName_1: SP; DeviceName: /AL60P; LibraryName: adafruit; DeviceSetName: SPEAKER; Package: AL60P
footprint AL60P
pins: 1 +, 2 -

## SPEAKER/PS12
designator SP?, comment SPEAKER    Source: Buerklin   Added PS12 (for part # PS1240 piezo)    http://www.ladyada.net/library/pcb/eaglelibrary.html
GateName_1: S1; SymbolName_1: SP; DeviceName: /PS12; LibraryName: adafruit; DeviceSetName: SPEAKER; Package: PS12
footprint PS12
pins: P$1 +, P$2 -

## SPST
designator S?, comment Judco 50-0015-00
GateName_1: G$1; SymbolName_1: SPST; LibraryName: adafruit; DeviceSetName: SPST; Package: JUDCOSPST
footprint JUDCOSPST
pins: P, T S

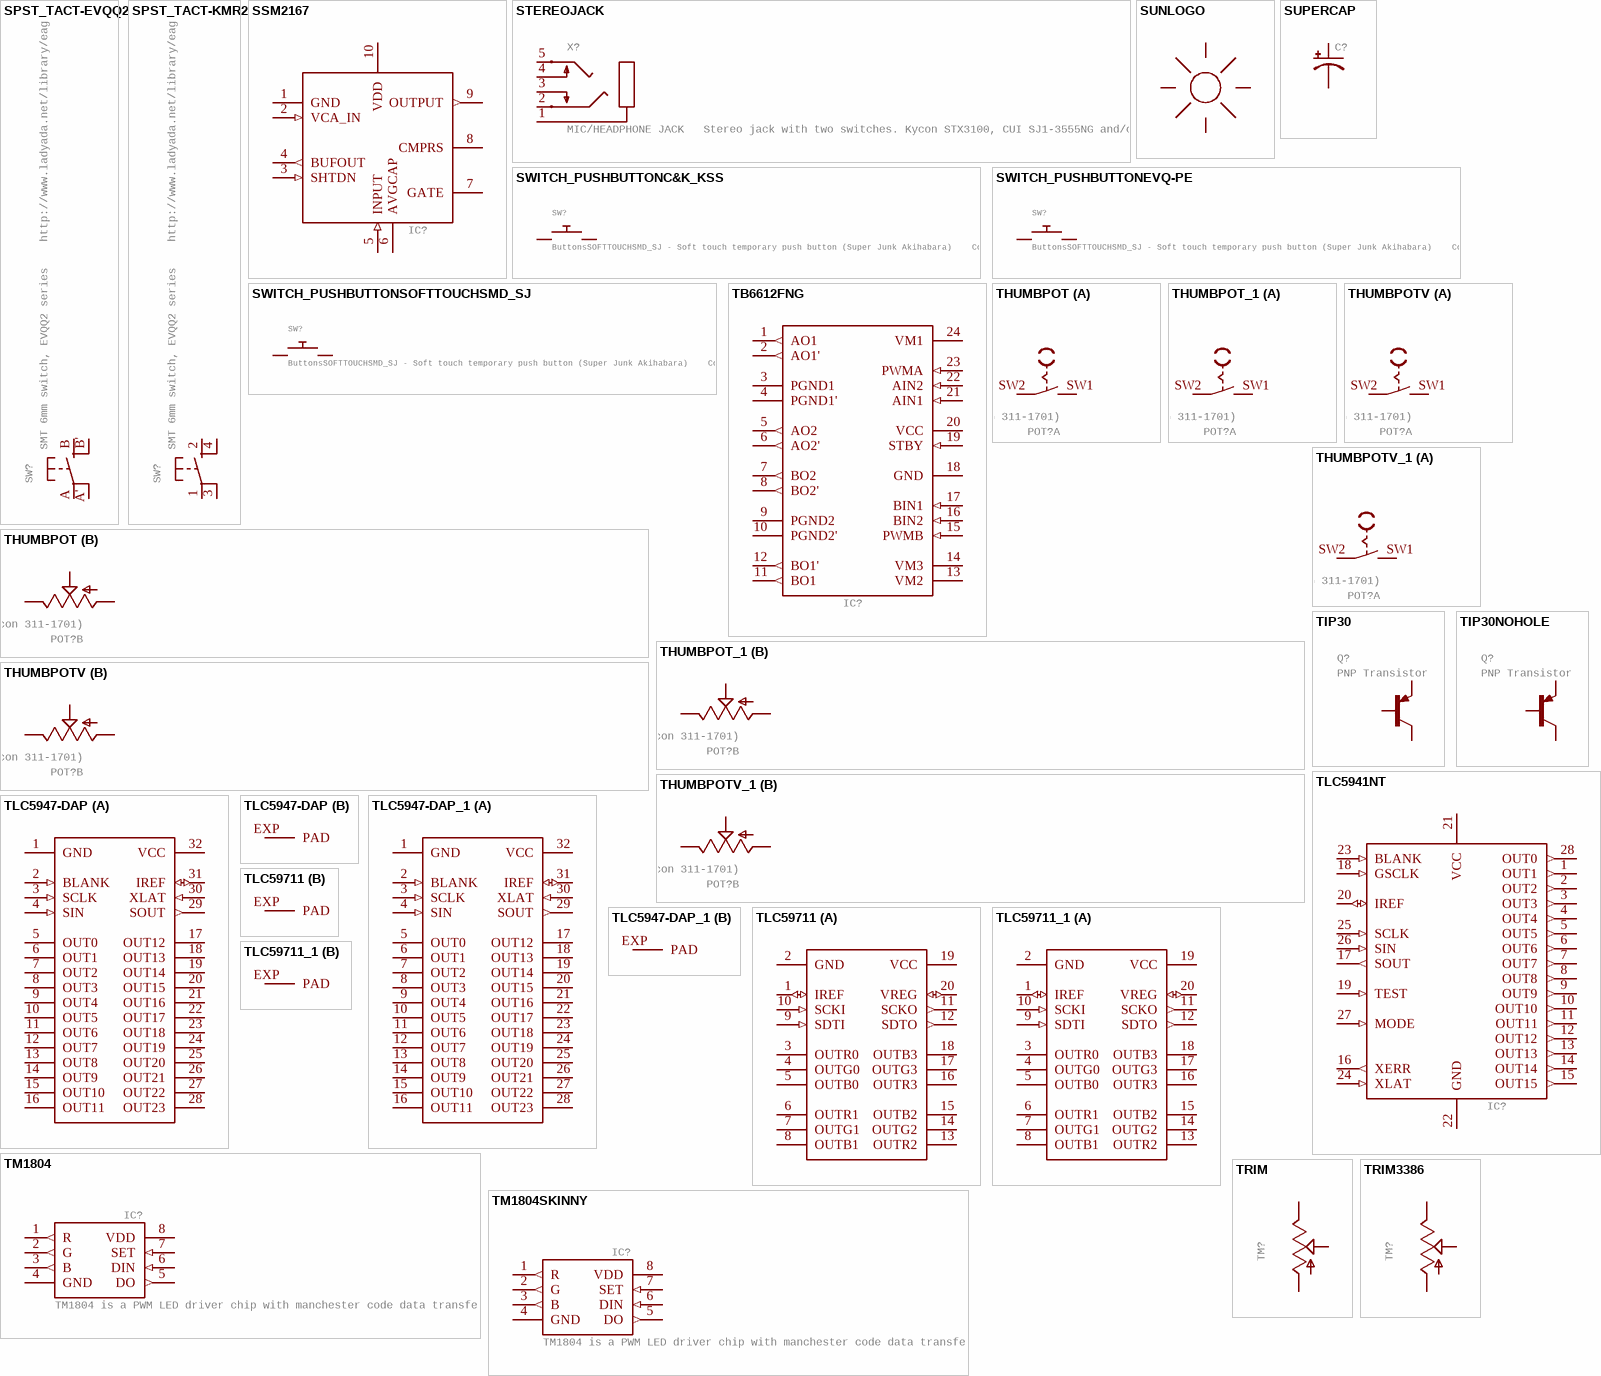
[diagram p186: symbols SPST_TACT-EVQQ2 to TRIM3386]

## SPST_TACT-EVQQ2
designator SW?, comment SMT 6mm switch, EVQQ2 series    http://www.ladyada.net/library/eagle
GateName_1: G$1; SymbolName_1: TS2; DeviceName: -EVQQ2; DeviceSetName: SPST_TACT; LibraryName: adafruit; Package: EVQ-Q2
footprint EVQ-Q2
pins: A P, A' P1, B S, B' S1

## SPST_TACT-KMR2
designator SW?, comment SMT 6mm switch, EVQQ2 series    http://www.ladyada.net/library/eagle
GateName_1: G$1; SymbolName_1: TS2; DeviceName: -KMR2; DeviceSetName: SPST_TACT; LibraryName: adafruit; Package: KMR2
footprint KMR2
pins: 1 P, 2 S, 3 P1, 4 S1

## SSM2167
designator IC?, comment SSM2167   Microphone conditioner chip  (value not drawn)
GateName_1: G$1; SymbolName_1: SSM2167; LibraryName: adafruit; DeviceSetName: SSM2167; Package: MSOP10
footprint MSOP10
pins: 1 GND (power), 2 VCA_IN (in), 3 SHTDN (in), 4 BUFOUT (out), 5 INPUT (in), 6 AVGCAP, 7 GATE, 8 CMPRS, 9 OUTPUT (out), 10 VDD (power)

## STEREOJACK
designator X?, comment MIC/HEADPHONE JACK   Stereo jack with two switches. Kycon STX3100, CUI SJ1-3555NG and/or 4UCon 05544
GateName_1: 1; SymbolName_1: KS-S; LibraryName: adafruit; DeviceSetName: STEREOJACK; Package: STX3100
footprint STX3100
pins: 1, 2, 3, 4, 5

## SUNLOGO
designator ?, comment Just a SMT logo of a sun. cute!  (value not drawn)
GateName_1: G$1; SymbolName_1: SUNLOGO; LibraryName: adafruit; DeviceSetName: SUNLOGO; Package: SUN
footprint SUN

## SUPERCAP
designator C?
GateName_1: G$1; SymbolName_1: CPOL-US; DeviceSetName: SUPERCAP; LibraryName: adafruit; Package: 414-VA5R
footprint 414-VA5R
pins: +, -

## SWITCH_PUSHBUTTONC&K_KSS
designator SW?, comment ButtonsSOFTTOUCHSMD_SJ - Soft touch temporary push button (Super Junk Akihabara)    Compatible with SKPMANE010 [Mouser: 688-SKPMAN]   C&K_KSS = Digikey: KSS221GLFS
GateName_1: G$1; DeviceSetName: SWITCH_PUSHBUTTON; SymbolName_1: PUSHBUTTON; DeviceName: C&K_KSS; LibraryName: adafruit; Package: BTN_CK_KSS
footprint BTN_CK_KSS
pins: P$1, P$2

## SWITCH_PUSHBUTTONEVQ-PE
designator SW?, comment ButtonsSOFTTOUCHSMD_SJ - Soft touch temporary push button (Super Junk Akihabara)    Compatible with SKPMANE010 [Mouser: 688-SKPMAN]   C&K_KSS = Digikey: KSS221GLFS
GateName_1: G$1; DeviceName: EVQ-PE; DeviceSetName: SWITCH_PUSHBUTTON; SymbolName_1: PUSHBUTTON; LibraryName: adafruit; Package: TACT_PANA-EVQ
footprint TACT_PANA-EVQ
pins: P$1, P$2

## SWITCH_PUSHBUTTONSOFTTOUCHSMD_SJ
designator SW?, comment ButtonsSOFTTOUCHSMD_SJ - Soft touch temporary push button (Super Junk Akihabara)    Compatible with SKPMANE010 [Mouser: 688-SKPMAN]   C&K_KSS = Digikey: KSS221GLFS
GateName_1: G$1; DeviceSetName: SWITCH_PUSHBUTTON; SymbolName_1: PUSHBUTTON; DeviceName: SOFTTOUCHSMD_SJ; LibraryName: adafruit; Package: PUSHBUTTON_SMD_SJ
footprint PUSHBUTTON_SMD_SJ
pins: P$1, P$2

## TB6612FNG
designator IC?, comment TB6612FNG   MOS dual H-bridge motor driver, 1.2A current 3.2A peak 3 or 5v logic and 3-15v motor  (value not drawn)
GateName_1: G$1; SymbolName_1: TB6612FNG; LibraryName: adafruit; DeviceSetName: TB6612FNG; Package: SSOP24
footprint SSOP24
pins: 1 AO1 (out), 2 AO1' (out), 3 PGND1 (power), 4 PGND1' (power), 5 AO2 (out), 6 AO2' (out), 7 BO2 (out), 8 BO2' (out), 9 PGND2 (power), 10 PGND2' (power), 11 BO1 (out), 12 BO1' (out), 13 VM2 (power), 14 VM3 (power), 15 PWMB (in), 16 BIN2 (in), 17 BIN1 (in), 18 GND (power), 19 STBY (in), 20 VCC (power), 21 AIN1 (in), 22 AIN2 (in), 23 PWMA (in), 24 VM1 (power)

## THUMBPOT
designator POT?, comment Thumbwheel pot with switch   Available in horizontal (Alpha RV121SF) or vertical (Xicon 311-1701)
GateName_1: SW; DeviceSetName: THUMBPOT; SymbolName_1: SW; GateName_2: POT; SymbolName_2: POT; LibraryName: adafruit; Package: THUMBWHEEL
footprint THUMBWHEEL
part A pins: SW1 S, SW2 P
part B pins: 1 A, 2 S, 3 E

## THUMBPOT_1
designator POT?, comment Thumbwheel pot with switch   Available in horizontal (Alpha RV121SF) or vertical (Xicon 311-1701)
GateName_1: SW; DeviceSetName: THUMBPOT; SymbolName_1: SW; GateName_2: POT; SymbolName_2: POT; LibraryName: adafruit; Package: THUMBWHEEL
footprint THUMBWHEEL
part A pins: SW1 S, SW2 P
part B pins: 1 A, 2 S, 3 E

## THUMBPOTV
designator POT?, comment Thumbwheel pot with switch   Available in horizontal (Alpha RV121SF) or vertical (Xicon 311-1701)
GateName_1: SW; DeviceName: V; DeviceSetName: THUMBPOT; SymbolName_1: SW; GateName_2: POT; SymbolName_2: POT; LibraryName: adafruit; Package: THUMBWHEELV
footprint THUMBWHEELV
part A pins: SW1 S, SW2 P
part B pins: A, E, S

## THUMBPOTV_1
designator POT?, comment Thumbwheel pot with switch   Available in horizontal (Alpha RV121SF) or vertical (Xicon 311-1701)
GateName_1: SW; DeviceName: V; DeviceSetName: THUMBPOT; SymbolName_1: SW; GateName_2: POT; SymbolName_2: POT; LibraryName: adafruit; Package: THUMBWHEELV
footprint THUMBWHEELV
part A pins: SW1 S, SW2 P
part B pins: A, E, S

## TIP30
designator Q?, comment PNP Transistor
GateName_1: G$1; DeviceSetName: TIP30; SymbolName_1: PNP; LibraryName: adafruit; Package: TO220
footprint TO220
pins: 1 B, 2 C, 3 E

## TIP30NOHOLE
designator Q?, comment PNP Transistor
GateName_1: G$1; DeviceName: NOHOLE; DeviceSetName: TIP30; SymbolName_1: PNP; LibraryName: adafruit; Package: TO220-NOHOLE
footprint TO220-NOHOLE
pins: 1 B, 2 C, 3 E

## TLC5941NT
designator IC?
GateName_1: G$1; SymbolName_1: TLC5941; DeviceName: NT; LibraryName: adafruit; DeviceSetName: TLC5941; Package: DIL28-3
footprint DIL28-3
pins: 1 OUT1 (out), 2 OUT2 (out), 3 OUT3 (out), 4 OUT4 (out), 5 OUT5 (out), 6 OUT6 (out), 7 OUT7 (out), 8 OUT8 (out), 9 OUT9 (out), 10 OUT10 (out), 11 OUT11 (out), 12 OUT12 (out), 13 OUT13 (out), 14 OUT14 (out), 15 OUT15 (out), 16 XERR (out), 17 SOUT (out), 18 GSCLK (in), 19 TEST (in), 20 IREF (io), 21 VCC (power), 22 GND (power), 23 BLANK (in), 24 XLAT (in), 25 SCLK (in), 26 SIN (in), 27 MODE (in), 28 OUT0 (out)

## TLC5947-DAP
designator IC?
GateName_1: G$1; SymbolName_1: TLC5947; GateName_2: G$2; SymbolName_2: THERMAL_PAD; DeviceName: -DAP; LibraryName: adafruit; DeviceSetName: TLC5947; Package: HTSSOP32DAP
footprint HTSSOP32DAP
part A pins: 1 GND (power), 2 BLANK (in), 3 SCLK (in), 4 SIN (in), 5 OUT0 (oc), 6 OUT1 (oc), 7 OUT2 (oc), 8 OUT3 (oc), 9 OUT4 (oc), 10 OUT5 (oc), 11 OUT6 (oc), 12 OUT7 (oc), 13 OUT8 (oc), 14 OUT9 (oc), 15 OUT10 (oc), 16 OUT11 (oc), 17 OUT12 (oc), 18 OUT13 (oc), 19 OUT14 (oc), 20 OUT15 (oc), 21 OUT16 (oc), 22 OUT17 (oc), 23 OUT18 (oc), 24 OUT19 (oc), 25 OUT20 (oc), 26 OUT21 (oc), 27 OUT22 (oc), 28 OUT23 (oc), 29 SOUT (out), 30 XLAT (in), 31 IREF (io), 32 VCC (power)
part B pins: EXP PAD

## TLC5947-DAP_1
designator IC?
GateName_1: G$1; SymbolName_1: TLC5947; GateName_2: G$2; SymbolName_2: THERMAL_PAD; DeviceName: -DAP; LibraryName: adafruit; DeviceSetName: TLC5947; Package: HTSSOP32DAP
footprint HTSSOP32DAP
part A pins: 1 GND (power), 2 BLANK (in), 3 SCLK (in), 4 SIN (in), 5 OUT0 (oc), 6 OUT1 (oc), 7 OUT2 (oc), 8 OUT3 (oc), 9 OUT4 (oc), 10 OUT5 (oc), 11 OUT6 (oc), 12 OUT7 (oc), 13 OUT8 (oc), 14 OUT9 (oc), 15 OUT10 (oc), 16 OUT11 (oc), 17 OUT12 (oc), 18 OUT13 (oc), 19 OUT14 (oc), 20 OUT15 (oc), 21 OUT16 (oc), 22 OUT17 (oc), 23 OUT18 (oc), 24 OUT19 (oc), 25 OUT20 (oc), 26 OUT21 (oc), 27 OUT22 (oc), 28 OUT23 (oc), 29 SOUT (out), 30 XLAT (in), 31 IREF (io), 32 VCC (power)
part B pins: EXP PAD

## TLC59711
designator IC?
GateName_1: G$1; SymbolName_1: TLC59711; GateName_2: G$2; SymbolName_2: THERMAL_PAD; LibraryName: adafruit; DeviceSetName: TLC59711; Package: HTSSOP20DAP
footprint HTSSOP20DAP
part A pins: 1 IREF (io), 2 GND (power), 3 OUTR0 (oc), 4 OUTG0 (oc), 5 OUTB0 (oc), 6 OUTR1 (oc), 7 OUTG1 (oc), 8 OUTB1 (oc), 9 SDTI (in), 10 SCKI (in), 11 SCKO (out), 12 SDTO (out), 13 OUTR2 (oc), 14 OUTG2 (oc), 15 OUTB2 (oc), 16 OUTR3 (oc), 17 OUTG3 (oc), 18 OUTB3 (oc), 19 VCC (power), 20 VREG (io)
part B pins: EXP PAD

## TLC59711_1
designator IC?
GateName_1: G$1; SymbolName_1: TLC59711; GateName_2: G$2; SymbolName_2: THERMAL_PAD; LibraryName: adafruit; DeviceSetName: TLC59711; Package: HTSSOP20DAP
footprint HTSSOP20DAP
part A pins: 1 IREF (io), 2 GND (power), 3 OUTR0 (oc), 4 OUTG0 (oc), 5 OUTB0 (oc), 6 OUTR1 (oc), 7 OUTG1 (oc), 8 OUTB1 (oc), 9 SDTI (in), 10 SCKI (in), 11 SCKO (out), 12 SDTO (out), 13 OUTR2 (oc), 14 OUTG2 (oc), 15 OUTB2 (oc), 16 OUTR3 (oc), 17 OUTG3 (oc), 18 OUTB3 (oc), 19 VCC (power), 20 VREG (io)
part B pins: EXP PAD

## TM1804
designator IC?, comment TM1804 is a PWM LED driver chip with manchester code data transfer!
GateName_1: G$1; SymbolName_1: TM1804; LibraryName: adafruit; DeviceSetName: TM1804; Package: SO08
footprint SO08
pins: 1 R (out), 2 G (out), 3 B (out), 4 GND (power), 5 DO (out), 6 DIN (in), 7 SET (in), 8 VDD (power)

## TM1804SKINNY
designator IC?, comment TM1804 is a PWM LED driver chip with manchester code data transfer!
GateName_1: G$1; DeviceName: SKINNY; SymbolName_1: TM1804; LibraryName: adafruit; DeviceSetName: TM1804; Package: SO08-SKINNYPADS
footprint SO08-SKINNYPADS
pins: 1 R (out), 2 G (out), 3 B (out), 4 GND (power), 5 DO (out), 6 DIN (in), 7 SET (in), 8 VDD (power)

## TRIM
designator TM?
GateName_1: G$1; SymbolName_1: TRIM; LibraryName: adafruit; DeviceSetName: TRIM; Package: 6MM
footprint 6MM
pins: A, E, S

## TRIM3386
designator TM?
GateName_1: G$1; SymbolName_1: TRIM; DeviceName: 3386; LibraryName: adafruit; DeviceSetName: TRIM; Package: TRIM-3386
footprint TRIM-3386
pins: ?1 A, ?2 E, ?3 S

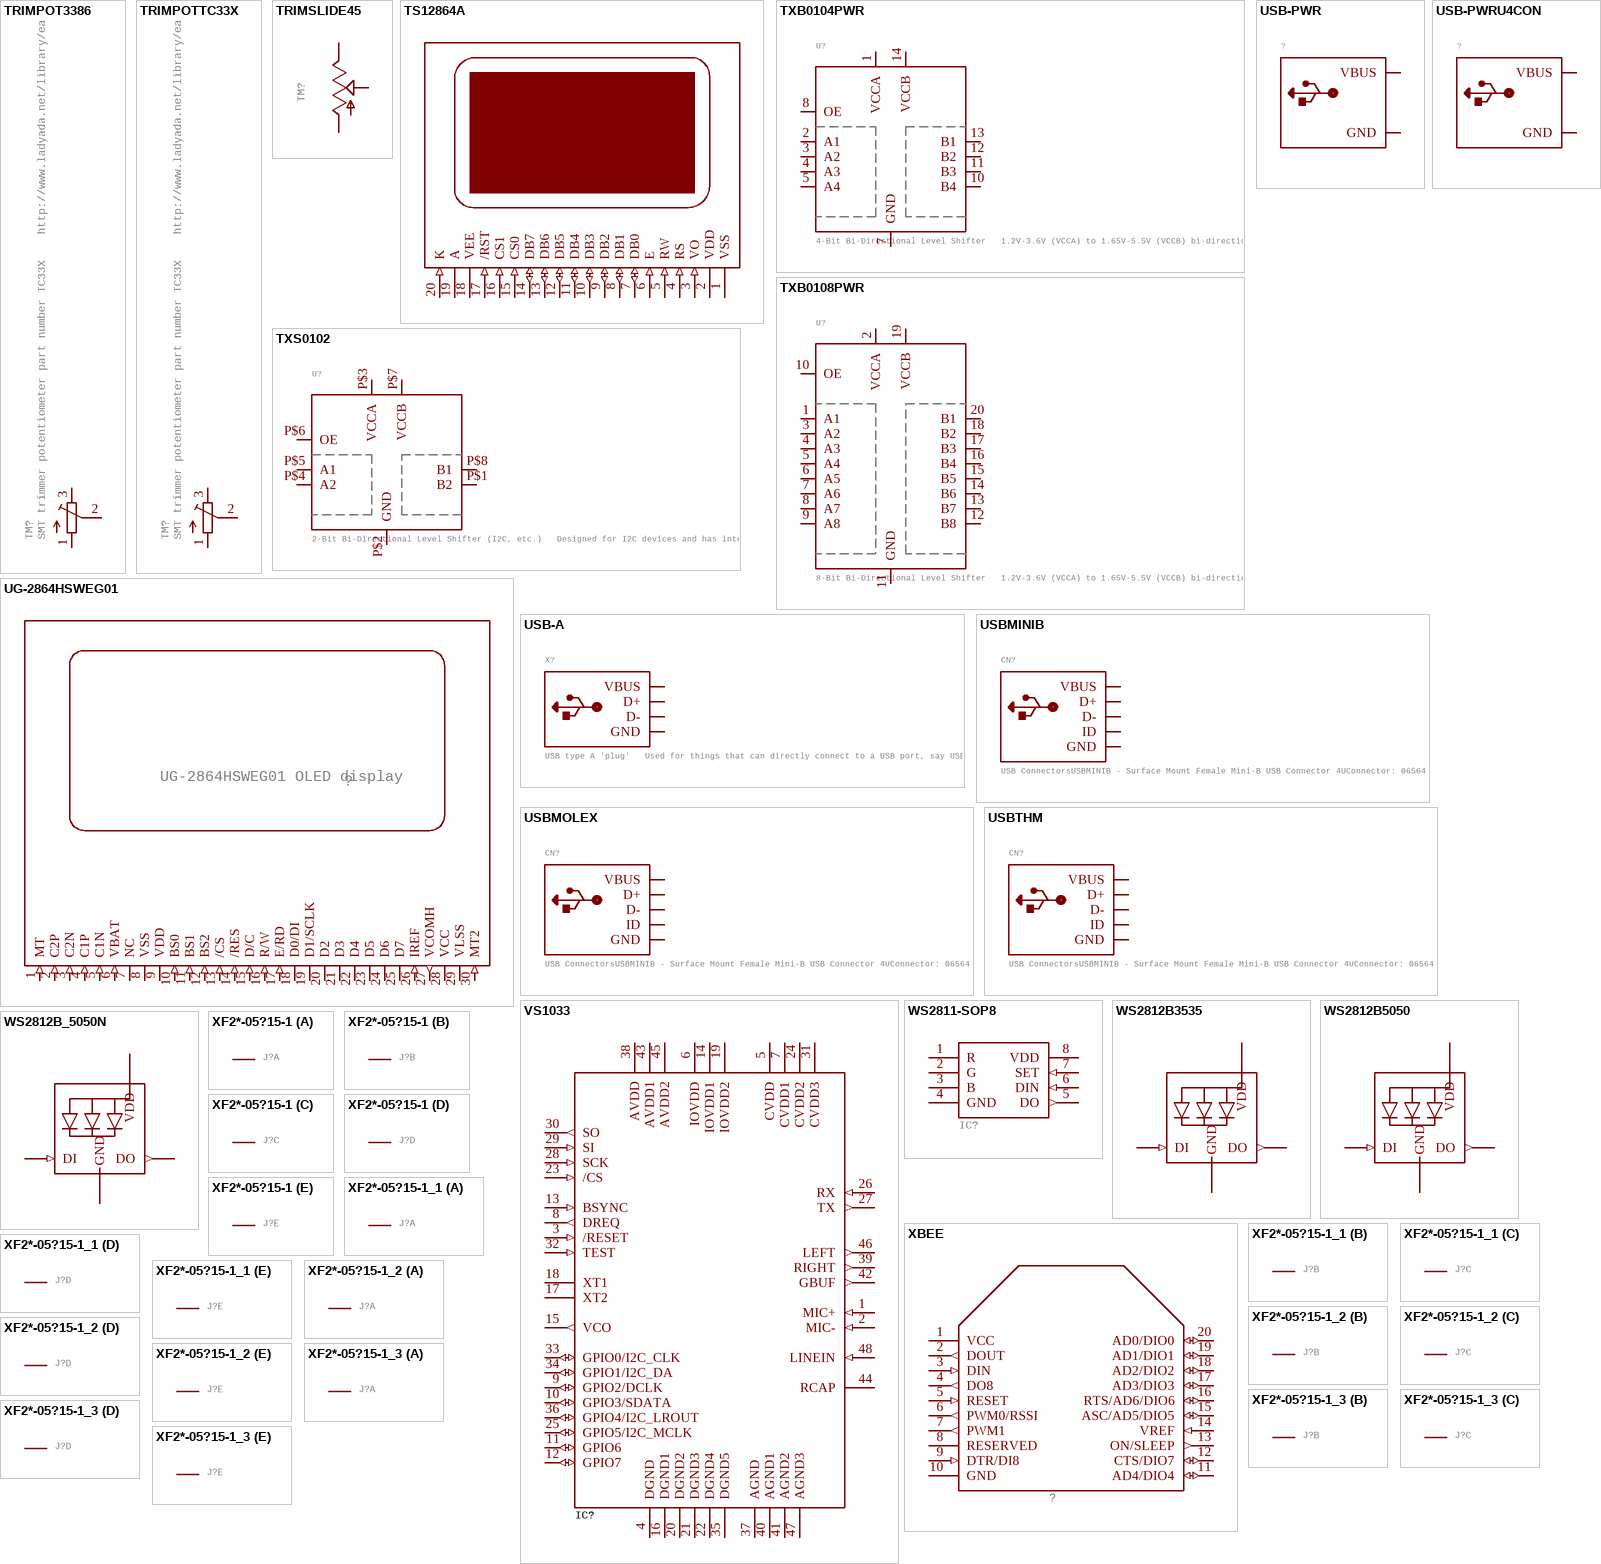
[diagram p187: symbols TRIMPOT3386 to XF2*-05?15-1_3]

## TRIMPOT3386
designator TM?, comment SMT trimmer potentiometer part number TC33X    http://www.ladyada.net/library/eagle
GateName_1: G$1; SymbolName_1: TRIMPOT; DeviceName: 3386; LibraryName: adafruit; DeviceSetName: TRIMPOT; Package: TRIM-3386
footprint TRIM-3386
pins: 1 A, 2 S, 3 E

## TRIMPOTTC33X
designator TM?, comment SMT trimmer potentiometer part number TC33X    http://www.ladyada.net/library/eagle
GateName_1: G$1; SymbolName_1: TRIMPOT; DeviceName: TC33X; LibraryName: adafruit; DeviceSetName: TRIMPOT; Package: TC33X
footprint TC33X
pins: 1 A, 2 S, 3 E

## TRIMSLIDE45
designator TM?
GateName_1: G$1; SymbolName_1: TRIM; DeviceName: SLIDE45; LibraryName: adafruit; DeviceSetName: TRIM; Package: SLIDEPOT-45
footprint SLIDEPOT-45
pins: A, B S, C E

## TS12864A
designator ?, comment KS0108 based display. Some have slightly different pinouts so double check!  (value not drawn)
GateName_1: G$1; SymbolName_1: GLCD; DeviceSetName: TS12864A; LibraryName: adafruit; Package: TS12864
footprint TS12864
pins: 1 VSS (power), 2 VDD (power), 3 VO (in), 4 RS (in), 5 RW (in), 6 E (in), 7 DB0 (io), 8 DB1 (io), 9 DB2 (io), 10 DB3 (io), 11 DB4 (io), 12 DB5 (io), 13 DB6 (io), 14 DB7 (io), 15 CS0 (in), 16 CS1 (in), 17 /RST (in), 18 VEE (power), 19 A (power), 20 K (in)

## TXB0104PWR
designator U?, comment 4-Bit Bi-Directional Level Shifter   1.2V-3.6V (VCCA) to 1.65V-5.5V (VCCB) bi-directional level shifter with auto direction sensing.    Max data rate - VCCA 1.8V:  20Mbps (50ns), VCCA 3.3V: 100Mbps (10ns)       Digikey: 296-21929-1-ND
GateName_1: G$1; SymbolName_1: TXB0104PWR; LibraryName: adafruit; DeviceSetName: TXB0104PWR; Package: TSSOP14
footprint TSSOP14
pins: 1 VCCA (io), 2 A1 (io), 3 A2 (io), 4 A3 (io), 5 A4 (io), 7 GND (io), 8 OE (io), 10 B4 (io), 11 B3 (io), 12 B2 (io), 13 B1 (io), 14 VCCB (io)

## TXB0108PWR
designator U?, comment 8-Bit Bi-Directional Level Shifter   1.2V-3.6V (VCCA) to 1.65V-5.5V (VCCB) bi-directional level shifter with auto direction sensing.    Max data rate - VCCA 1.8V:  20Mbps (50ns), VCCA 3.3V: 100Mbps (10ns)       Digikey: 296-21527-1-ND
GateName_1: G$1; SymbolName_1: TXB0108PWR; LibraryName: adafruit; DeviceSetName: TXB0108PWR; Package: TSSOP20
footprint TSSOP20
pins: 1 A1 (io), 2 VCCA (io), 3 A2 (io), 4 A3 (io), 5 A4 (io), 6 A5 (io), 7 A6 (io), 8 A7 (io), 9 A8 (io), 10 OE (io), 11 GND (io), 12 B8 (io), 13 B7 (io), 14 B6 (io), 15 B5 (io), 16 B4 (io), 17 B3 (io), 18 B2 (io), 19 VCCB (io), 20 B1 (io)

## TXS0102
designator U?, comment 2-Bit Bi-Directional Level Shifter (I2C, etc.)   Designed for I2C devices and has internal pullups.  Not to be confused with TXB010x series.   1.2V-3.6V (VCCA) to 1.65V-5.5V (VCCB) bi-directional level shifter with auto direction sensing.    Max data rate - 24Mbps (Push Pull), 2Mbps (Open Drain)       Digikey: 296-21931-1-ND
GateName_1: G$1; SymbolName_1: TXS0102; LibraryName: adafruit; DeviceSetName: TXS0102; Package: VFSOP-8
footprint VFSOP-8
pins: P$1 B2 (io), P$2 GND (io), P$3 VCCA (io), P$4 A2 (io), P$5 A1 (io), P$6 OE (io), P$7 VCCB (io), P$8 B1 (io)

## UG-2864HSWEG01
designator ?, comment UG-2864HSWEG01 OLED display
GateName_1: G$1; SymbolName_1: UG-2864HSWEG01; LibraryName: adafruit; DeviceSetName: UG-2864HSWEG01; Package: 1X30-0.7MM
footprint 1X30-0.7MM
pins: 1 MT (in), 2 C2P (in), 3 C2N (in), 4 C1P (in), 5 C1N (in), 6 VBAT (in), 7 NC, 8 VSS (power), 9 VDD (power), 10 BS0 (in), 11 BS1 (in), 12 BS2 (in), 13 /CS (in), 14 /RES (in), 15 D/C (in), 16 R/W (in), 17 E/RD (in), 18 D0/DI (io), 19 D1/SCLK (io), 20 D2 (io), 21 D3 (io), 22 D4 (io), 23 D5 (io), 24 D6 (io), 25 D7 (io), 26 IREF (in), 27 VCOMH (out), 28 VCC (power), 29 VLSS (power), 30 MT2 (in)

## USB-A
designator X?, comment USB type A 'plug'   Used for things that can directly connect to a USB port, say USB key
GateName_1: G$1; SymbolName_1: USB-4; DeviceSetName: USB-A; LibraryName: adafruit; Package: MOLEX_480371000
footprint MOLEX_480371000
pins: 1 VBUS (power), 2 D- (io), 3 D+ (io), 4 GND (power)

## USB-PWR
designator ?
GateName_1: G$1; SymbolName_1: USB-PWR; LibraryName: adafruit; DeviceSetName: USB-PWR; Package: USB-MINIB-THM-MOLEX-PWRONLY
footprint USB-MINIB-THM-MOLEX-PWRONLY
pins: GND (power), VBUS (power)

## USB-PWRU4CON
designator ?
GateName_1: G$1; SymbolName_1: USB-PWR; DeviceName: U4CON; LibraryName: adafruit; DeviceSetName: USB-PWR; Package: USB-MINIB-THM-PWRONLY
footprint USB-MINIB-THM-PWRONLY
pins: GND (power), VBUS (power)

## USBMINIB
designator CN?, comment USB ConnectorsUSBMINIB - Surface Mount Female Mini-B USB Connector 4UConnector: 06564   By microbuilder.euThru-hole RA Female Mini-B USB Connector 4UConnector: 18732   By ladyada.net
GateName_1: G$1; DeviceName: MINIB; SymbolName_1: USB; LibraryName: adafruit; DeviceSetName: USB; Package: USB-MINIB
footprint USB-MINIB
pins: D+ (io), D- (io), GND (power), ID (io), VBUS (power)

## USBMOLEX
designator CN?, comment USB ConnectorsUSBMINIB - Surface Mount Female Mini-B USB Connector 4UConnector: 06564   By microbuilder.euThru-hole RA Female Mini-B USB Connector 4UConnector: 18732   By ladyada.net
GateName_1: G$1; DeviceName: MOLEX; SymbolName_1: USB; LibraryName: adafruit; DeviceSetName: USB; Package: USB-MINIB-THM-MOLEX
footprint USB-MINIB-THM-MOLEX
pins: D+ (io), D- (io), GND (power), ID (io), VBUS (power)

## USBTHM
designator CN?, comment USB ConnectorsUSBMINIB - Surface Mount Female Mini-B USB Connector 4UConnector: 06564   By microbuilder.euThru-hole RA Female Mini-B USB Connector 4UConnector: 18732   By ladyada.net
GateName_1: G$1; DeviceName: THM; SymbolName_1: USB; LibraryName: adafruit; DeviceSetName: USB; Package: USB-MINIB-THM
footprint USB-MINIB-THM
pins: D+ (io), D- (io), GND (power), ID (io), VBUS (power)

## VS1033
designator IC?
GateName_1: G$1; SymbolName_1: VS1033; LibraryName: adafruit; DeviceSetName: VS1033; Package: SQFP-S-7X7-48
footprint SQFP-S-7X7-48
pins: 1 MIC+ (in), 2 MIC- (in), 3 /RESET (in), 4 DGND (power), 5 CVDD (power), 6 IOVDD (power), 7 CVDD1 (power), 8 DREQ (out), 9 GPIO2/DCLK (io), 10 GPIO3/SDATA (io), 11 GPIO6 (io), 12 GPIO7 (io), 13 BSYNC (in), 14 IOVDD1 (power), 15 VCO (out), 16 DGND1 (power), 17 XT2, 18 XT1, 19 IOVDD2 (power), 20 DGND2 (power), 21 DGND3 (power), 22 DGND4 (power), 23 /CS (in), 24 CVDD2 (power), 25 GPIO5/I2C_MCLK (io), 26 RX (in), 27 TX (out), 28 SCK (in), 29 SI (in), 30 SO (out), 31 CVDD3 (power), 32 TEST (in), 33 GPIO0/I2C_CLK (io), 34 GPIO1/I2C_DA (io), 35 DGND5 (power), 36 GPIO4/I2C_LROUT (io), 37 AGND (power), 38 AVDD (power), 39 RIGHT (out), 40 AGND1 (power), 41 AGND2 (power), 42 GBUF (out), 43 AVDD1 (power), 44 RCAP, 45 AVDD2 (power), 46 LEFT (out), 47 AGND3 (power), 48 LINEIN (in)

## WS2811-SOP8
designator IC?
GateName_1: G$1; SymbolName_1: WS2811; DeviceName: -SOP8; LibraryName: adafruit; DeviceSetName: WS2811; Package: SO08-SKINNYPADS
footprint SO08-SKINNYPADS
pins: 1 R (oc), 2 G (oc), 3 B (oc), 4 GND (power), 5 DO (out), 6 DIN (in), 7 SET (in), 8 VDD (power)

## WS2812B3535
designator LED?
GateName_1: G$1; SymbolName_1: WS2812BLED; DeviceName: 3535; DeviceSetName: WS2812B; LibraryName: adafruit; Package: LED3535
footprint LED3535
pins: 1 DI (in), 2 VDD (power), 3 DO (out), 4 GND (power)

## WS2812B5050
designator LED?
GateName_1: G$1; SymbolName_1: WS2812BLED; DeviceName: 5050; DeviceSetName: WS2812B; LibraryName: adafruit; Package: WS2812B
footprint WS2812B
pins: 1-VDD VDD (power), 2-DOUT DO (out), 3-GND GND (power), 4-DIN DI (in)

## WS2812B_5050N
designator LED?
GateName_1: G$1; SymbolName_1: WS2812BLED; DeviceName: _5050N; DeviceSetName: WS2812B; LibraryName: adafruit; Package: WS2812B-NARROW
footprint WS2812B-NARROW
pins: 1-VDD VDD (power), 2-DOUT DO (out), 3-GND GND (power), 4-DIN DI (in)

## XBEE
designator ?
GateName_1: G$1; SymbolName_1: XBEE; LibraryName: adafruit; DeviceSetName: XBEE; Package: XBEE
footprint XBEE
pins: 1 VCC (power), 2 DOUT (out), 3 DIN (in), 4 DO8 (out), 5 RESET (in), 6 PWM0/RSSI (out), 7 PWM1 (out), 8 RESERVED, 9 DTR/DI8 (in), 10 GND (power), 11 AD4/DIO4 (io), 12 CTS/DIO7 (io), 13 ON/SLEEP (out), 14 VREF (in), 15 ASC/AD5/DIO5 (io), 16 RTS/AD6/DIO6 (io), 17 AD3/DIO3 (io), 18 AD2/DIO2 (io), 19 AD1/DIO1 (io), 20 AD0/DIO0 (io)

## XF2*-05?15-1
designator J?, comment OMRON FPC Connector   Source : http://www.omron.com/ecb/products/pdf/fpc.pdf  (value not drawn)
GateName_1: -1; SymbolName_1: PV; GateName_2: -2; SymbolName_2: P; GateName_3: -3; GateName_4: -4; GateName_5: -5; DeviceName: 15-1; DeviceSetName: XF2*-05?; SymbolName_3: P; SymbolName_4: P; SymbolName_5: P; LibraryName: adafruit; Package: XF2E-0515-1
footprint XF2E-0515-1
part A pins: 1 MSV
part B pins: 2 MS
part C pins: 3 MS
part D pins: 4 MS
part E pins: 5 MS

## XF2*-05?15-1_1
designator J?, comment OMRON FPC Connector   Source : http://www.omron.com/ecb/products/pdf/fpc.pdf  (value not drawn)
GateName_1: -1; SymbolName_1: PV; GateName_2: -2; SymbolName_2: P; GateName_3: -3; GateName_4: -4; GateName_5: -5; DeviceName: 15-1; DeviceSetName: XF2*-05?; SymbolName_3: P; SymbolName_4: P; SymbolName_5: P; LibraryName: adafruit; Package: XF2E-0515-1
footprint XF2E-0515-1
part A pins: 1 MSV
part B pins: 2 MS
part C pins: 3 MS
part D pins: 4 MS
part E pins: 5 MS

## XF2*-05?15-1_2
designator J?, comment OMRON FPC Connector   Source : http://www.omron.com/ecb/products/pdf/fpc.pdf  (value not drawn)
GateName_1: -1; SymbolName_1: PV; GateName_2: -2; SymbolName_2: P; GateName_3: -3; GateName_4: -4; GateName_5: -5; DeviceName: 15-1; DeviceSetName: XF2*-05?; SymbolName_3: P; SymbolName_4: P; SymbolName_5: P; LibraryName: adafruit; Package: XF2E-0515-1
footprint XF2E-0515-1
part A pins: 1 MSV
part B pins: 2 MS
part C pins: 3 MS
part D pins: 4 MS
part E pins: 5 MS

## XF2*-05?15-1_3
designator J?, comment OMRON FPC Connector   Source : http://www.omron.com/ecb/products/pdf/fpc.pdf  (value not drawn)
GateName_1: -1; SymbolName_1: PV; GateName_2: -2; SymbolName_2: P; GateName_3: -3; GateName_4: -4; GateName_5: -5; DeviceName: 15-1; DeviceSetName: XF2*-05?; SymbolName_3: P; SymbolName_4: P; SymbolName_5: P; LibraryName: adafruit; Package: XF2E-0515-1
footprint XF2E-0515-1
part A pins: 1 MSV
part B pins: 2 MS
part C pins: 3 MS
part D pins: 4 MS
part E pins: 5 MS

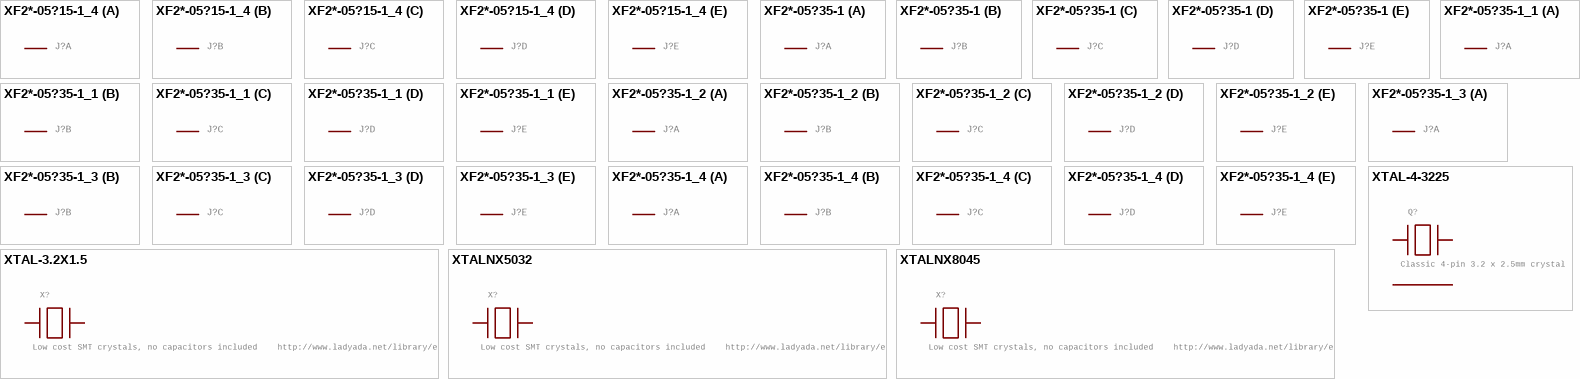
[diagram p188: symbols XF2*-05?15-1_4 to XTALNX8045]